# Altium schematic symbol library Sch_Lib.SchLib: 596 symbols (part 6 of 7)
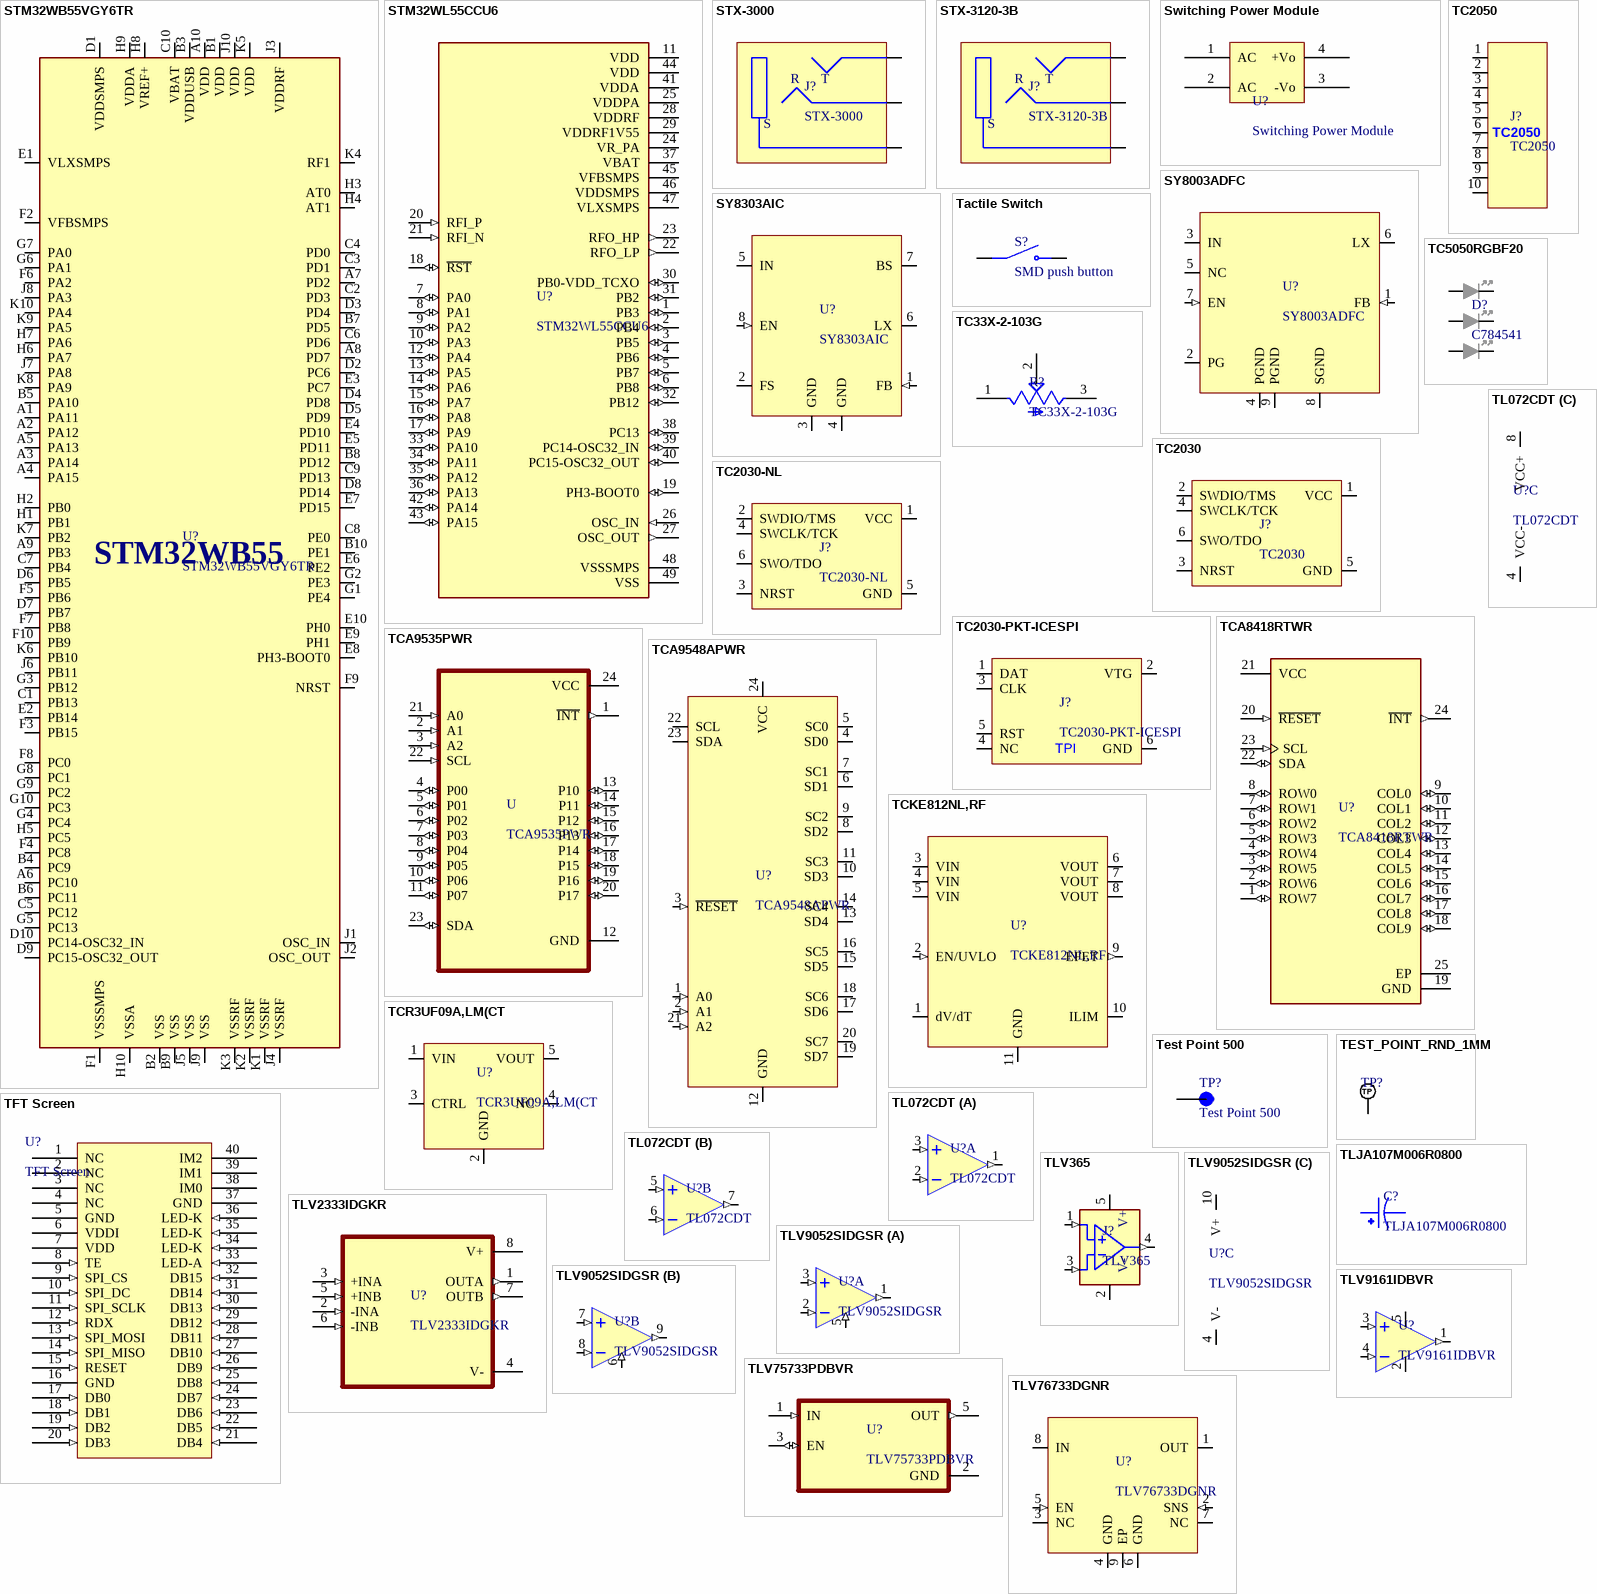
[diagram p42: symbols STM32WB55VGY6TR to TLV76733DGNR]

## TLV75733PDBVR
designator U?
1-A, low-IQ, high-accuracy, low-dropout voltage regulator with enable; MF: Texas Instruments; Check_prices: https://www.snapeda.com/parts/TLV75733PDBVR/Texas+Instruments/view-part/?ref=eda; Value: *; Availability: In Stock; MP: TLV75733PDBVR; Price: None; Package: SOT-23-5 Texas Instruments; SnapEDA_Link: https://www.snapeda.com/parts/TLV75733PDBVR/Texas+Instruments/view-part/?ref=snap; Purchase-URL: https://pricing.snapeda.com/search/part/TLV75733PDBVR/?ref=eda
footprint SOT95P280X145-5N
pins: 1 IN (in), 2 GND (power), 3 EN (io), 5 OUT (out)

## TLV76733DGNR
designator U?
1A 3V3 LDO Regulator HVSSOP-8; Manufacturer: Texas Instruments; Manufacturer Part Number: TLV76733DGNR; Distributor Link: https://www.mouser.de/ProductDetail/Texas-Instruments/TLV76733DGNR?qs=sGAEpiMZZMug9GoBKXZ751mAF56Mq1BpE6IEorDiG8zdSVWisnEjQA%3D%3D
footprint HVSSOP-8
pins: 1 OUT (power), 2 SNS (in), 3 NC, 4 GND (power), 5 EN (in), 6 GND (power), 7 NC, 8 IN (power), 9 EP (power)

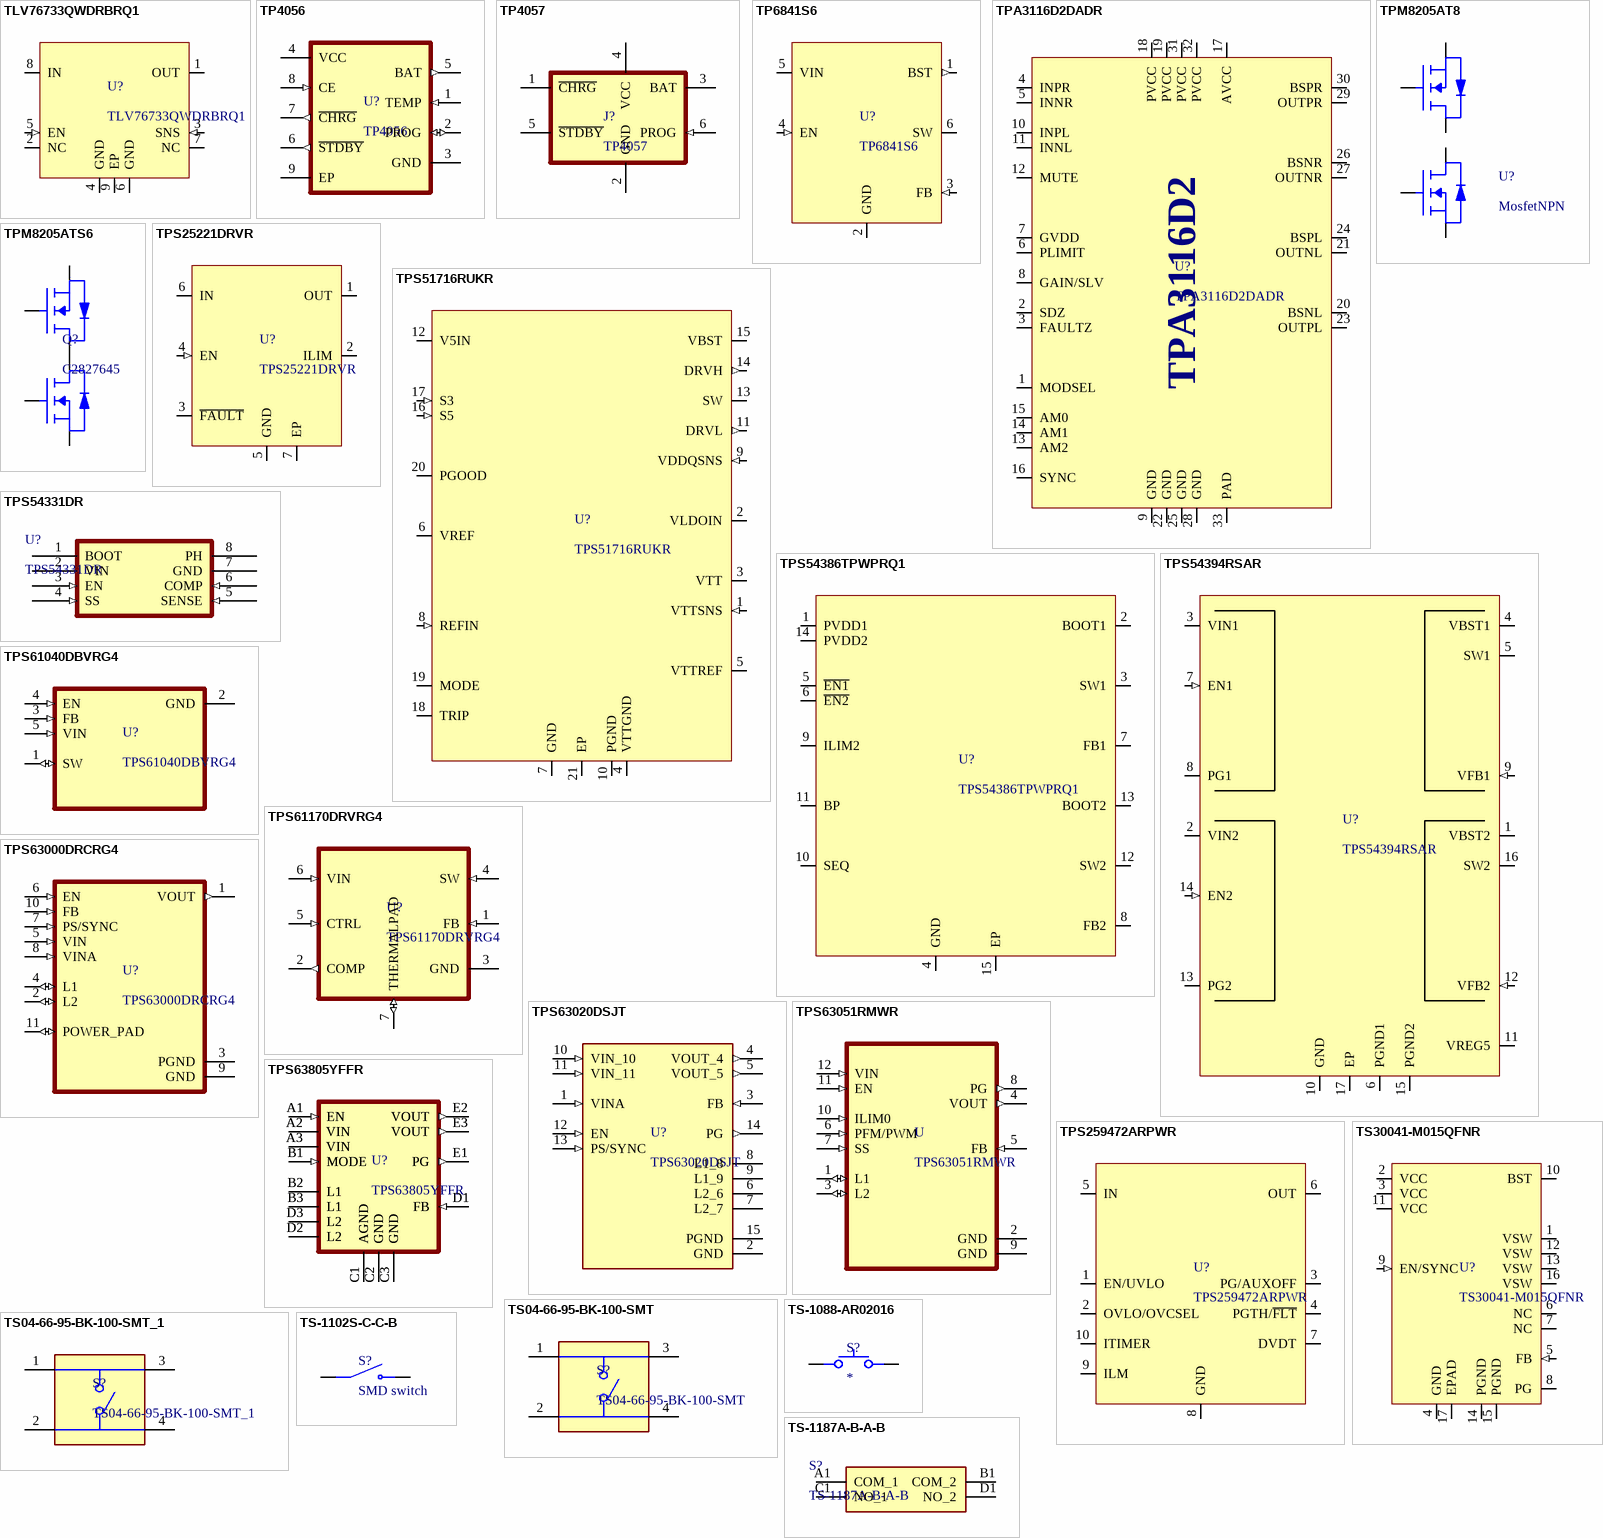
[diagram p31: symbols TLV76733QWDRBRQ1 to TS-1187A-B-A-B]

## TLV76733QWDRBRQ1
designator U?
1A 3V3 LDO Regulator WSON-8; Manufacturer: Texas Instruments; Manufacturer Part Number: TLV76733QWDRBRQ1
footprint WSON-8-3x3-0.65 (SON, 8-Leads, Body 3.00x3.00mm, Pitch 0.65mm, Thermal Pad 2.33x1.49mm, IPC Medium Density)
pins: 1 OUT (power), 2 NC, 3 SNS (in), 4 GND (power), 5 EN (in), 6 GND (power), 7 NC, 8 IN (power), 9 EP (power)

## TP4056
designator U?
Complete single cell Li-Ion battery with a constant current / constant voltage linear charger; MF: NanJing Top Power ASIC Corp.; Check_prices: https://www.snapeda.com/parts/TP4056/NanJing+Top+Power+ASIC+Corp./view-part/?ref=eda; SnapEDA_Link: https://www.snapeda.com/parts/TP4056/NanJing+Top+Power+ASIC+Corp./view-part/?ref=snap; Price: None; Availability: Not in stock; Package: Package; MP: TP4056; Value: *
footprint SOP127P600X175-9N
pins: 1 TEMP (in), 2 PROG (io), 3 GND (power), 4 VCC (power), 5 BAT (out), 6 ~{STDBY} (out), 7 ~{CHRG} (out), 8 CE (in), 9 EP

## TP4057
designator J?
SOT23-6 BATTERY MANAGEMENT ICS R; MF: UMW; SnapEDA_Link: https://www.snapeda.com/parts/TP4057/UMW/view-part/?ref=snap; Package: SOT23-6 UMW; Value: *; MP: TP4057; Check_prices: https://www.snapeda.com/parts/TP4057/UMW/view-part/?ref=eda
footprint SOT26
pins: 1 ~{CHRG} (oc), 2 GND (power), 3 BAT (power), 4 VCC (power), 5 ~{STDBY} (oc), 6 PROG (in)

## TP6841S6
designator U?
40V 0.8A 800kHz Synchronous Step-Down Converter; Manufacturer: TECH PUBLIC; Manufacturer Part Number: TP6841S6
footprint SOT-23-6
pins: 1 BST (out), 2 GND (power), 3 FB (in), 4 EN (in), 5 VIN (power), 6 SW (power)

## TPA3116D2DADR
designator U?
50-W Filter-Free Class-D Stereo Amplifier With AM / Avoidance; Manufacturer: Texas Instruments; Manufacturer Part Number: TPA3116D2DADR
footprint TSSOP32-DAD (TSOP, 32-Leads, Body 11.00x6.10mm, Pitch 0.65mm, IPC Medium Density)
pins: 1 MODSEL, 2 SDZ, 3 FAULTZ, 4 INPR, 5 INNR, 6 PLIMIT, 7 GVDD, 8 GAIN/SLV, 9 GND, 10 INPL, 11 INNL, 12 MUTE, 13 AM2, 14 AM1, 15 AM0, 16 SYNC, 17 AVCC, 18 PVCC, 19 PVCC, 20 BSNL, 21 OUTNL, 22 GND, 23 OUTPL, 24 BSPL, 25 GND, 26 BSNR, 27 OUTNR, 28 GND, 29 OUTPR, 30 BSPR, 31 PVCC, 32 PVCC, 33 PAD
text: TPA3116D2

## TPM8205AT8
designator U?, comment MosfetNPN
20V 6A 19mΩ@4.5V,6A 1.5W 500mV TSSOP-8 MOSFETs ROHS; ComponentLink1Description: LCSC No Part; ComponentLink1URL: C7202961
footprint TSSOP-8-DW 1
pins: D1, D2, G1, G2, S1, S2

## TPM8205ATS6
designator Q?, comment C2827645
20V 25mΩ@2.5V,3A 1.5W 1.2V SOT-23-6 MOSFETs ROHS
footprint SOT-23-6
pins: 1 S1, 3 S2, 6 G1,  4 G2, D1, D2

## TPS25221DRVR
designator U?
2.5-V to 5.5-V, 2-A Continuous Current Limited Switch; Manufacturer: Texas Instruments; Manufacturer Part Number: TPS25221DRVR; Distributor Link: https://www.mouser.de/ProductDetail/Texas-Instruments/TPS25221DRVR?qs=y6ZabgHbY%252BwMfKdJX5xA9w%3D%3D; LCSC: C2872281
footprint WSON-6
pins: 1 OUT (power), 2 ILIM, 3 ~{FAULT} (oc), 4 EN (in), 5 GND (power), 6 IN (power), 7 EP (power)

## TPS51716RUKR
designator U?
DDR Memory Power Solution Synchronous Buck Controller, 2-A LDO, With Buffered Reference; Manufacturer: Texas Instruments; Manufacturer Part Number: TPS51716RUKR; Distributor Link: https://eu.mouser.com/ProductDetail/Texas-Instruments/TPS51716RUKR?qs=FBI%252BX3tnPf0Ie0vqCZ0PLg%3D%3D; LCSC: TPS51716RUKR
footprint WQFN-20
pins: 1 VTTSNS (in), 2 VLDOIN (power), 3 VTT (power), 4 VTTGND (power), 5 VTTREF (power), 6 VREF (power), 7 GND (power), 8 REFIN (in), 9 VDDQSNS (in), 10 PGND (power), 11 DRVL (out), 12 V5IN (power), 13 SW (power), 14 DRVH (out), 15 VBST (power), 16 S5 (in), 17 S3 (in), 18 TRIP, 19 MODE, 20 PGOOD (oc), 21 EP (power)

## TPS54331DR
designator U?
footprint SOIC127P599X175-8N
pins: 1 BOOT (power), 2 VIN (power), 3 EN (in), 4 SS (in), 5 SENSE (in), 6 COMP (in), 7 GND (power), 8 PH (power)

## TPS54386TPWPRQ1
designator U?
Dual Buck Regulators 4.5-28V, Dual 3A Out 600kHz HTSSOP-14; Manufacturer: Texas Instruments; Manufacturer Part Number: TPS54386TPWPRQ1
footprint HTSSOP-14-EP
pins: 1 PVDD1, 2 BOOT1, 3 SW1, 4 GND, 5 ~{EN1}, 6 ~{EN2}, 7 FB1, 8 FB2, 9 ILIM2, 10 SEQ, 11 BP, 12 SW2, 13 BOOT2, 14 PVDD2, 15 EP

## TPS54394RSAR
designator U?
3A Dual Channel Synchronous Step-Down Switcher with Integrated FET; Manufacturer: Texas Instruments; Manufacturer Part Number: TPS54394RSAR; Distributor Link: https://www.mouser.de/ProductDetail/Texas-Instruments/TPS54394RSAR?qs=iIeLWXrA%252B1VlbymFcvQr%252BA%3D%3D; LCSC: C2071452
footprint QFN-16
pins: 1 VBST2 (power), 2 VIN2 (power), 3 VIN1 (power), 4 VBST1 (power), 5 SW1 (power), 6 PGND1 (power), 7 EN1 (in), 8 PG1 (oc), 9 VFB1 (in), 10 GND (power), 11 VREG5 (power), 12 VFB2 (in), 13 PG2 (oc), 14 EN2 (in), 15 PGND2 (power), 16 SW2 (power), 17 EP (power)

## TPS61040DBVRG4
designator U?
28-V, 400-mA Switch Boost Converter in SOT-23 for LCD and White LED Applications 5-SOT-23 -40 to 85; MF: Texas Instruments; Purchase-URL: https://pricing.snapeda.com/search/part/TPS61040DBVRG4/?ref=eda; Package: SOT-23-5 Texas Instruments; Price: None; Check_prices: https://www.snapeda.com/parts/TPS61040DBVRG4/Texas+Instruments/view-part/?ref=eda; SnapEDA_Link: https://www.snapeda.com/parts/TPS61040DBVRG4/Texas+Instruments/view-part/?ref=snap; Availability: In Stock; Value: *; MP: TPS61040DBVRG4
footprint SOT95P280X145-5N
pins: 1 SW (io), 2 GND (power), 3 FB (in), 4 EN (in), 5 VIN (in)

## TPS61170DRVRG4
designator U?
1.2A Switch, 38V High Voltage Boost Converter in 2x2mm QFN Package 6-WSON -40 to 85; MF: Texas Instruments; Package: WSON-6 Texas Instruments; Price: None; Check_prices: https://www.snapeda.com/parts/TPS61170DRVRG4/Texas+Instruments/view-part/?ref=eda; Value: *; SnapEDA_Link: https://www.snapeda.com/parts/TPS61170DRVRG4/Texas+Instruments/view-part/?ref=snap; MP: TPS61170DRVRG4; Availability: In Stock; Purchase-URL: https://pricing.snapeda.com/search?q=TPS61170DRVRG4&ref=eda
footprint SON65P200X200X80-7N
pins: 1 FB (in), 2 COMP (out), 3 GND (power), 4 SW (in), 5 CTRL (in), 6 VIN (in), 7 THERMALPAD (io)

## TPS63000DRCRG4
designator U?
High efficiency Buck-Boost Converter with 1.8A Current Switches in 3x3 QFN 10-VSON -40 to 85; MF: Texas Instruments; Price: None; SnapEDA_Link: https://www.snapeda.com/parts/TPS63000DRCRG4/Texas%20Instruments/view-part/287688/?ref=snap; MP: TPS63000DRCRG4; Value: *; Availability: Warning; Package: VSON-10 Texas Instruments; Purchase-URL: https://pricing.snapeda.com/search/part/TPS63000DRCRG4/?ref=eda
footprint VREG_V62/16624-01YE
pins: 1 VOUT (out), 2 L2 (io), 3 PGND (power), 4 L1 (io), 5 VIN (in), 6 EN (in), 7 PS/SYNC (in), 8 VINA (in), 9 GND (power), 10 FB (in), 11 POWER_PAD (io)

## TPS63020DSJT
designator U?
High Efficiency Single Inductor Buck-Boost Converter with 4A Switch; MF: Texas Instruments; SnapEDA_Link: https://www.snapeda.com/parts/TPS63020DSJT/Texas+Instruments/view-part/?ref=snap; Package: VSON-14 Texas Instruments; Value: *; MP: TPS63020DSJT; Check_prices: https://www.snapeda.com/parts/TPS63020DSJT/Texas+Instruments/view-part/?ref=eda
footprint IC_TPS63020DSJT
pins: 1 VINA (in), 2 GND (power), 3 FB (in), 4 VOUT_4 (out), 5 VOUT_5 (out), 6 L2_6, 7 L2_7, 8 L1_8, 9 L1_9, 10 VIN_10 (in), 11 VIN_11 (in), 12 EN (in), 13 PS/SYNC (in), 14 PG (out), 15 PGND (power)

## TPS63051RMWR
designator U
Buck-Boost Switching Regulator IC Positive Fixed 3.3V 1 Output 500mA 12-VFQFN; MF: Texas Instruments; Package: VQFN-12 Texas Instruments; Value: *; Price: None; MP: TPS63051RMWR; SnapEDA_Link: https://www.snapeda.com/parts/TPS63051RMWR/Texas%20Instruments/view-part/423860/?ref=snap; Availability: Unavailable
footprint QFN50P250X250X100-12N
pins: 1 L1 (io), 2 GND (power), 3 L2 (io), 4 VOUT (out), 5 FB (in), 6 PFM/PWM (in), 7 SS (in), 8 PG (out), 9 GND (power), 10 ILIM0 (in), 11 EN (in), 12 VIN (in)

## TPS63805YFFR
designator U?
Switching Regulator IC Output; MF: Texas Instruments; MP: TPS63805YFFR; Package: None; SnapEDA_Link: https://www.snapeda.com/parts/TPS63805YFFR/Texas%20Instruments/view-part/3216300/?ref=snap; Availability: Unavailable; Value: *; Price: None
footprint BGA15N40P5X3_225X134X62N
pins: A1 EN (in), A1 EN (in), A2 VIN (power), A2 VIN (power), A3 VIN (power), A3 VIN (power), B1 MODE (in), B1 MODE (in), B2 L1, B2 L1, B3 L1, B3 L1, C1 AGND (power), C1 AGND (power), C2 GND (power), C2 GND (power), C3 GND (power), C3 GND (power), D1 FB (in), D1 FB (in), D2 L2, D2 L2, D3 L2, D3 L2, E1 PG (out), E1 PG (out), E2 VOUT (out), E2 VOUT (out), E3 VOUT (out), E3 VOUT (out)

## TPS259472ARPWR
designator U?
2.7-V–23-V, 5.5-A, 28-mΩ True Reverse Current Blocking eFuse with / Input Reverse Polarity Protection; Manufacturer: Texas Instruments; Manufacturer Part Number: TPS259472ARPWR
footprint VQFN-HR-10
pins: 1 EN/UVLO, 2 OVLO/OVCSEL, 3 PG/AUXOFF, 4 PGTH/~{FLT}, 5 IN, 6 OUT, 7 DVDT, 8 GND, 9 ILM, 10 ITIMER

## TS04-66-95-BK-100-SMT
designator S?
6 x 6 mm, 4.3~9.5 mm Actuator Height, 100~260 gf, Surface Mount, SPST, Tactile Switch; MF: CUI Devices; Package: None; Price: None; SnapEDA_Link: https://www.snapeda.com/parts/TS04-66-95-BK-100-SMT/CUI+Devices/view-part/?ref=snap; CUI_purchase_URL: https://www.cuidevices.com/product/switches/tactile-switches/ts04-series?utm_source=snapeda.com&utm_medium=referral&utm_campaign=snapedaBOM; Value: *; Check_prices: https://www.snapeda.com/parts/TS04-66-95-BK-100-SMT/CUI+Devices/view-part/?ref=eda; MP: TS04-66-95-BK-100-SMT; Purchase-URL: https://pricing.snapeda.com/search/part/TS04-66-95-BK-100-SMT/?ref=eda; Availability: In Stock
footprint SW_TS04-66-95-BK-100-SMT
pins: 1, 2, 3, 4

## TS04-66-95-BK-100-SMT_1
designator S?
6 x 6 mm, 4.3~9.5 mm Actuator Height, 100~260 gf, Surface Mount, SPST, Tactile Switch; MF: CUI Devices; Package: None; Price: None; SnapEDA_Link: https://www.snapeda.com/parts/TS04-66-95-BK-100-SMT/CUI+Devices/view-part/?ref=snap; CUI_purchase_URL: https://www.cuidevices.com/product/switches/tactile-switches/ts04-series?utm_source=snapeda.com&utm_medium=referral&utm_campaign=snapedaBOM; Value: *; Check_prices: https://www.snapeda.com/parts/TS04-66-95-BK-100-SMT/CUI+Devices/view-part/?ref=eda; MP: TS04-66-95-BK-100-SMT; Purchase-URL: https://pricing.snapeda.com/search/part/TS04-66-95-BK-100-SMT/?ref=eda; Availability: In Stock
footprint SW_TS04-66-95-BK-100-SMT
pins: 1, 2, 3, 4

## TS30041-M015QFNR
designator U?
High Efficiency 1A Current-Mode Synchronous Buck Converter, 2.2MHz; Manufacturer: Semtech; Manufacturer Part Number: TS30041-M015QFNR
footprint QFN16-3x3-0.5 (QFN, 16-Leads, Body 3.00x3.00mm, Pitch 0.50mm, Thermal Pad 1.58x1.58mm, IPC Medium Density)
pins: 1 VSW (power), 2 VCC (power), 3 VCC (power), 4 GND (power), 5 FB (in), 6 NC, 7 NC, 8 PG (oc), 9 EN/SYNC (in), 10 BST, 11 VCC (power), 12 VSW (power), 13 VSW (power), 14 PGND (power), 15 PGND (power), 16 VSW (power), 17 EPAD (power)

## TS-1088-AR02016
designator S?
50mA 4mm 100MÎ© 100,000 Times 12V 160gf 3mm 2mm Round Button Vertical welding SPST SMD Tactile Switches ROHS; MF: Xunpu; MP: TS-1088-AR02016; SnapEDA_Link: https://www.snapeda.com/parts/TS-1088-AR02016/Xunpu/view-part/?ref=snap; Package: Package; Value: *; Check_prices: https://www.snapeda.com/parts/TS-1088-AR02016/Xunpu/view-part/?ref=eda
footprint SW_TS-1088-AR02016
pins: 1, 2

## TS-1102S-C-C-B
designator S?, comment SMD switch
None Without bracket 50mA 6mm 300,000 times 260gf 12V 6mm 5mm Round Button Standing paste SPST SMD Tactile Switches ROHS
footprint TS-1102S-C-C-B (None Without bracket 50mA 6mm 300,000 times 260gf 12V 6mm 5mm Round Button Standing paste SPST SMD Tactile Switches ROHS)
pins: 2 COM, 4 NO

## TS-1187A-B-A-B
designator S?
Switch; Manufacturer_Name: XKB Connectivity; Datasheet Link: http://www.helloxkb.com/public/images/pdf/TS-1187A-X-X-X.pdf; Height: 4.05mm; Manufacturer_Part_Number: TS-1187A-B-A-B
footprint TS1187ABAB
pins: A1 COM_1, B1 COM_2, C1 NO_1, D1 NO_2

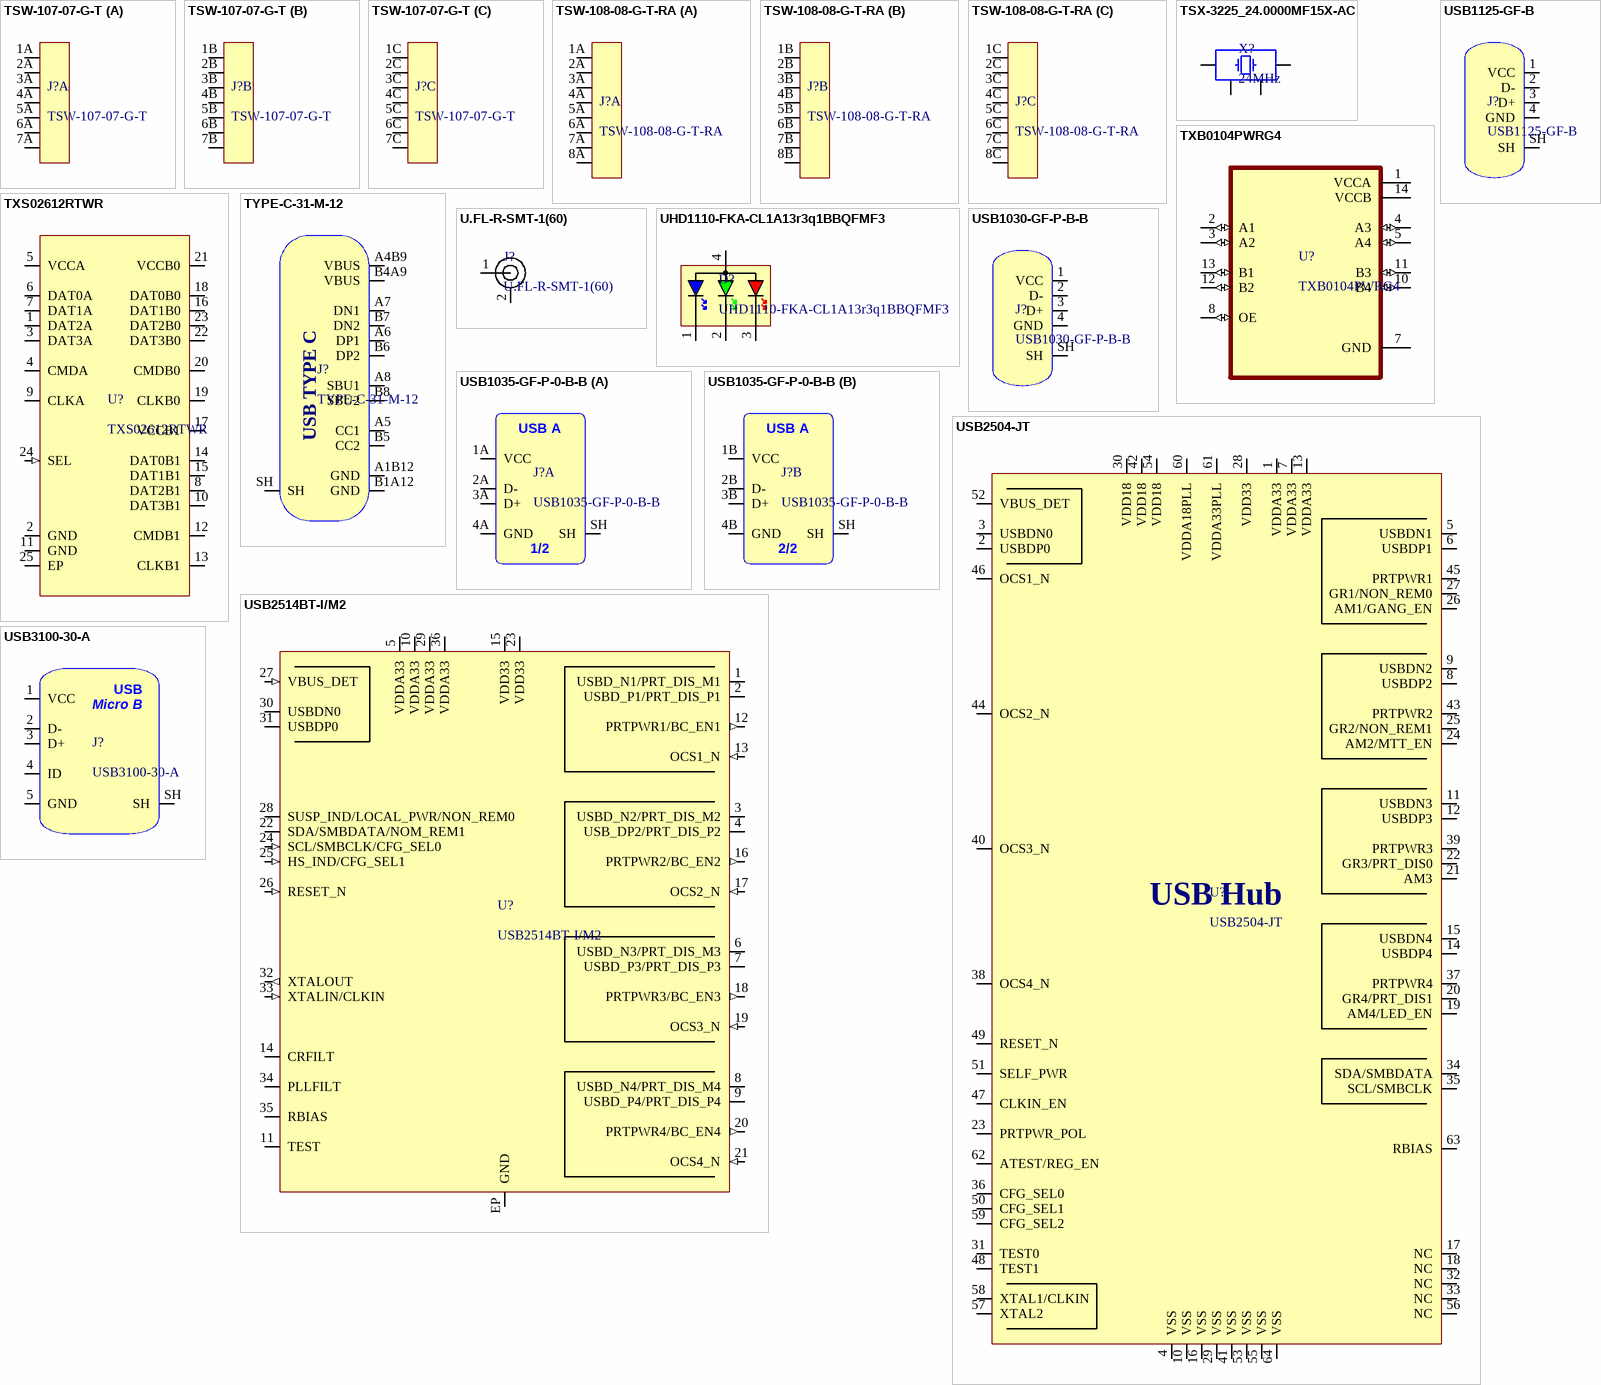
[diagram p32: symbols TSW-107-07-G-T to USB3100-30-A]

## TSW-107-07-G-T
designator J?
Header 21 Position 3 Rows 2.54mm Pitch Right Angle; Manufacturer: Samtec; Manufacturer Part Number: TSW-107-07-G-T
footprint TSW-107-07-G-T
part A pins: 1A, 2A, 3A, 4A, 5A, 6A, 7A
part B pins: 1B, 2B, 3B, 4B, 5B, 6B, 7B
part C pins: 1C, 2C, 3C, 4C, 5C, 6C, 7C

## TSW-108-08-G-T-RA
designator J?
Header 24 Position 3 Rows 2.54mm Pitch Right Angle; Manufacturer: Samtec; Manufacturer Part Number: TSW-108-08-G-T-RA
footprint TSW-108-08-G-T-RA
part A pins: 1A, 2A, 3A, 4A, 5A, 6A, 7A, 8A
part B pins: 1B, 2B, 3B, 4B, 5B, 6B, 7B, 8B
part C pins: 1C, 2C, 3C, 4C, 5C, 6C, 7C, 8C

## TSX-3225_24.0000MF15X-AC
designator X?, comment 24MHz
Crystal SMD 24MHz 10PPM 7pF 3225; Manufacturer: Epson; Manufacturer Part Number: TSX-3225 24.0000MF15X-AC
footprint XTAL_3225
pins: 1, 2, 3, 4

## TXB0104PWRG4
designator U?
4-Bit Bidirectional Voltage-Level Shifter with Auto Direction Sensing and +/-15 kV ESD Protect 14-TSSOP -40 to 85; MF: Texas Instruments; Value: *; Check_prices: https://www.snapeda.com/parts/TXB0104PWRG4/Texas+Instruments/view-part/?ref=eda; SnapEDA_Link: https://www.snapeda.com/parts/TXB0104PWRG4/Texas+Instruments/view-part/?ref=snap; Availability: In Stock; MP: TXB0104PWRG4; Purchase-URL: https://pricing.snapeda.com/search/part/TXB0104PWRG4/?ref=eda; Package: TSSOP-14 Texas Instruments; Price: None
footprint SOP65P640X120-14N
pins: 1 VCCA (power), 2 A1 (io), 3 A2 (io), 4 A3 (io), 5 A4 (io), 7 GND (power), 8 OE (io), 10 B4 (io), 11 B3 (io), 12 B2 (io), 13 B1 (io), 14 VCCB (power)

## TXS02612RTWR
designator U?
SDIO PORT EXPANDER WITH VOLTAGE-LEVEL TRANSLATION; Manufacturer: Texas Instruments; Manufacturer Part Number: TXS02612RTWR; Distributor Link: https://www.lcsc.com/product-detail/Interface-Specialized_Texas-Instruments-TXS02612RTWR_C140276.html; LCSC: C140276
footprint QFN50P400X400X80_HS-25N (QFN, 24-Leads, Body 4.00x4.00mm, Pitch 0.50mm, Thermal Pad 2.50x2.50mm, IPC Medium Density)
pins: 1 DAT2A (io), 2 GND (power), 3 DAT3A (io), 4 CMDA (io), 5 VCCA (power), 6 DAT0A (io), 7 DAT1A (io), 8 DAT2B1 (io), 9 CLKA (io), 10 DAT3B1 (io), 11 GND (power), 12 CMDB1 (io), 13 CLKB1 (io), 14 DAT0B1 (io), 15 DAT1B1 (io), 16 DAT1B0 (io), 17 VCCB1 (power), 18 DAT0B0 (io), 19 CLKB0 (io), 20 CMDB0 (io), 21 VCCB0 (power), 22 DAT3B0 (io), 23 DAT2B0 (io), 24 SEL (in), 25 EP (power)

## TYPE-C-31-M-12
designator J?
USB Type C Connector Horizontal SMT; Manufacturer: Koren Hroparts; Manufacturer Part Number: TYPE-C-31-M-12
footprint TYPE-C-31-M-12
pins: A1B12 GND (power), A4B9 VBUS (power), A5 CC1, A6 DP1 (io), A7 DN1 (io), A8 SBU1 (io), B1A12 GND (power), B4A9 VBUS (power), B5 CC2 (hiz), B6 DP2 (io), B7 DN2 (io), B8 SBU2 (io), SH (power)
text: USB TYPE C

## U.FL-R-SMT-1(60)
designator J?
RF Connector u.FL 50 Ohms 6 GHz; Manufacturer: Hirose Connector; Manufacturer Part Number: U.FL-R-SMT-1(60)
footprint U.FL-R-SMT-1(60)
pins: 1, 2

## UHD1110-FKA-CL1A13r3q1BBQFMF3
designator D?
RGB LED If=10mA Vf=1.9,2.9,2.9; Manufacturer: Cree; Manufacturer Part Number: UHD1110-FKA-CL1A13r3q1BBQFMF3
footprint UHD1110-FKA-CL1A13r3q1BBQFMF3
pins: 1, 2, 3, 4

## USB1030-GF-P-B-B
designator J?
USB Connector Type B 2.0 Through-Hole; Manufacturer: GCT; Manufacturer Part Number: USB1030-GF-P-B-B
footprint USB1030-GF-P-B-B
pins: 1 VCC, 2 D-, 3 D+, 4 GND, SH

## USB1035-GF-P-0-B-B
designator J?
USB Connector Type A 2.0 Dual Stacked Through-Hole; Manufacturer: GCT; Manufacturer Part Number: USB1035-GF-P-0-B-B; Distributor Link: https://www.mouser.de/ProductDetail/GCT/USB1035-GF-P-0-B-B?qs=KUoIvG%2F9IlZdvtWwZEQX0g%3D%3D
footprint USB1035-GF-P-0-B-B
part A pins: 1A VCC, 2A D-, 3A D+, 4A GND, SH
part B pins: 1B VCC, 2B D-, 3B D+, 4B GND, SH
part A text: USB A; 1/2
part B text: USB A; 2/2

## USB1125-GF-B
designator J?
USB Connector Type A 2.0 Through-Hole; Manufacturer: GCT; Manufacturer Part Number: USB1125-GF-B
footprint USB1125-GF-B
pins: 1 VCC, 2 D-, 3 D+, 4 GND, SH

## USB2504-JT
designator U?
USB 2.0 4 Port Hub TQFP-64; Manufacturer: Microchip; Manufacturer Part Number: USB2504-JT
footprint TQFP-64-0.5 (TSQFP, 64-Leads, Body 10,00x10,00mm, Pitch 0,50mm, IPC Medium Density)
pins: 1 VDDA33, 2 USBDP0, 3 USBDN0, 4 VSS, 5 USBDN1, 6 USBDP1, 7 VDDA33, 8 USBDP2, 9 USBDN2, 10 VSS, 11 USBDN3, 12 USBDP3, 13 VDDA33, 14 USBDP4, 15 USBDN4, 16 VSS, 17 NC, 18 NC, 19 AM4/LED_EN, 20 GR4/PRT_DIS1, 21 AM3, 22 GR3/PRT_DIS0, 23 PRTPWR_POL, 24 AM2/MTT_EN, 25 GR2/NON_REM1, 26 AM1/GANG_EN, 27 GR1/NON_REM0, 28 VDD33, 29 VSS, 30 VDD18, 31 TEST0, 32 NC, 33 NC, 34 SDA/SMBDATA, 35 SCL/SMBCLK, 36 CFG_SEL0, 37 PRTPWR4, 38 OCS4_N, 39 PRTPWR3, 40 OCS3_N, 41 VSS, 42 VDD18, 43 PRTPWR2, 44 OCS2_N, 45 PRTPWR1, 46 OCS1_N, 47 CLKIN_EN, 48 TEST1, 49 RESET_N, 50 CFG_SEL1, 51 SELF_PWR, 52 VBUS_DET, 53 VSS, 54 VDD18, 55 VSS, 56 NC, 57 XTAL2, 58 XTAL1/CLKIN, 59 CFG_SEL2, 60 VDDA18PLL, 61 VDDA33PLL, 62 ATEST/REG_EN, 63 RBIAS, 64 VSS
text: USB Hub

## USB2514BT-I/M2
designator U?
USB 2.0 High-Speed 4-Port Hub; Manufacturer: Microchip; Manufacturer Part Number: USB2514BT-I/M2; Distributor Link: https://www.mouser.de/ProductDetail/Microchip-Technology/USB2514BT-I-M2?qs=uus7iwvxYD9qxHHW9Td2qw%3D%3D; LCSC: C510949
footprint SQFN-36
pins: 1 USBD_N1/PRT_DIS_M1 (io), 2 USBD_P1/PRT_DIS_P1 (io), 3 USBD_N2/PRT_DIS_M2 (io), 4 USB_DP2/PRT_DIS_P2 (io), 5 VDDA33 (power), 6 USBD_N3/PRT_DIS_M3 (io), 7 USBD_P3/PRT_DIS_P3 (io), 8 USBD_N4/PRT_DIS_M4 (io), 9 USBD_P4/PRT_DIS_P4 (io), 10 VDDA33 (power), 11 TEST, 12 PRTPWR1/BC_EN1 (out), 13 OCS1_N (in), 14 CRFILT (power), 15 VDD33 (power), 16 PRTPWR2/BC_EN2 (out), 17 OCS2_N (in), 18 PRTPWR3/BC_EN3 (out), 19 OCS3_N (in), 20 PRTPWR4/BC_EN4 (out), 21 OCS4_N (in), 22 SDA/SMBDATA/NOM_REM1 (io), 23 VDD33 (power), 24 SCL/SMBCLK/CFG_SEL0 (in), 25 HS_IND/CFG_SEL1 (in), 26 RESET_N (in), 27 VBUS_DET (in), 28 SUSP_IND/LOCAL_PWR/NON_REM0 (io), 29 VDDA33 (power), 30 USBDN0 (io), 31 USBDP0 (io), 32 XTALOUT (out), 33 XTALIN/CLKIN (in), 34 PLLFILT (power), 35 RBIAS, 36 VDDA33 (power), EP GND (power)

## USB3100-30-A
designator J?
USB Connector Type Micro B 2.0 SMD Reverse Mount; Manufacturer: GCT; Manufacturer Part Number: USB3100-30-A
footprint USB3100-30-A
pins: 1 VCC, 2 D-, 3 D+, 4 ID, 5 GND, SH
text: USB; Micro B

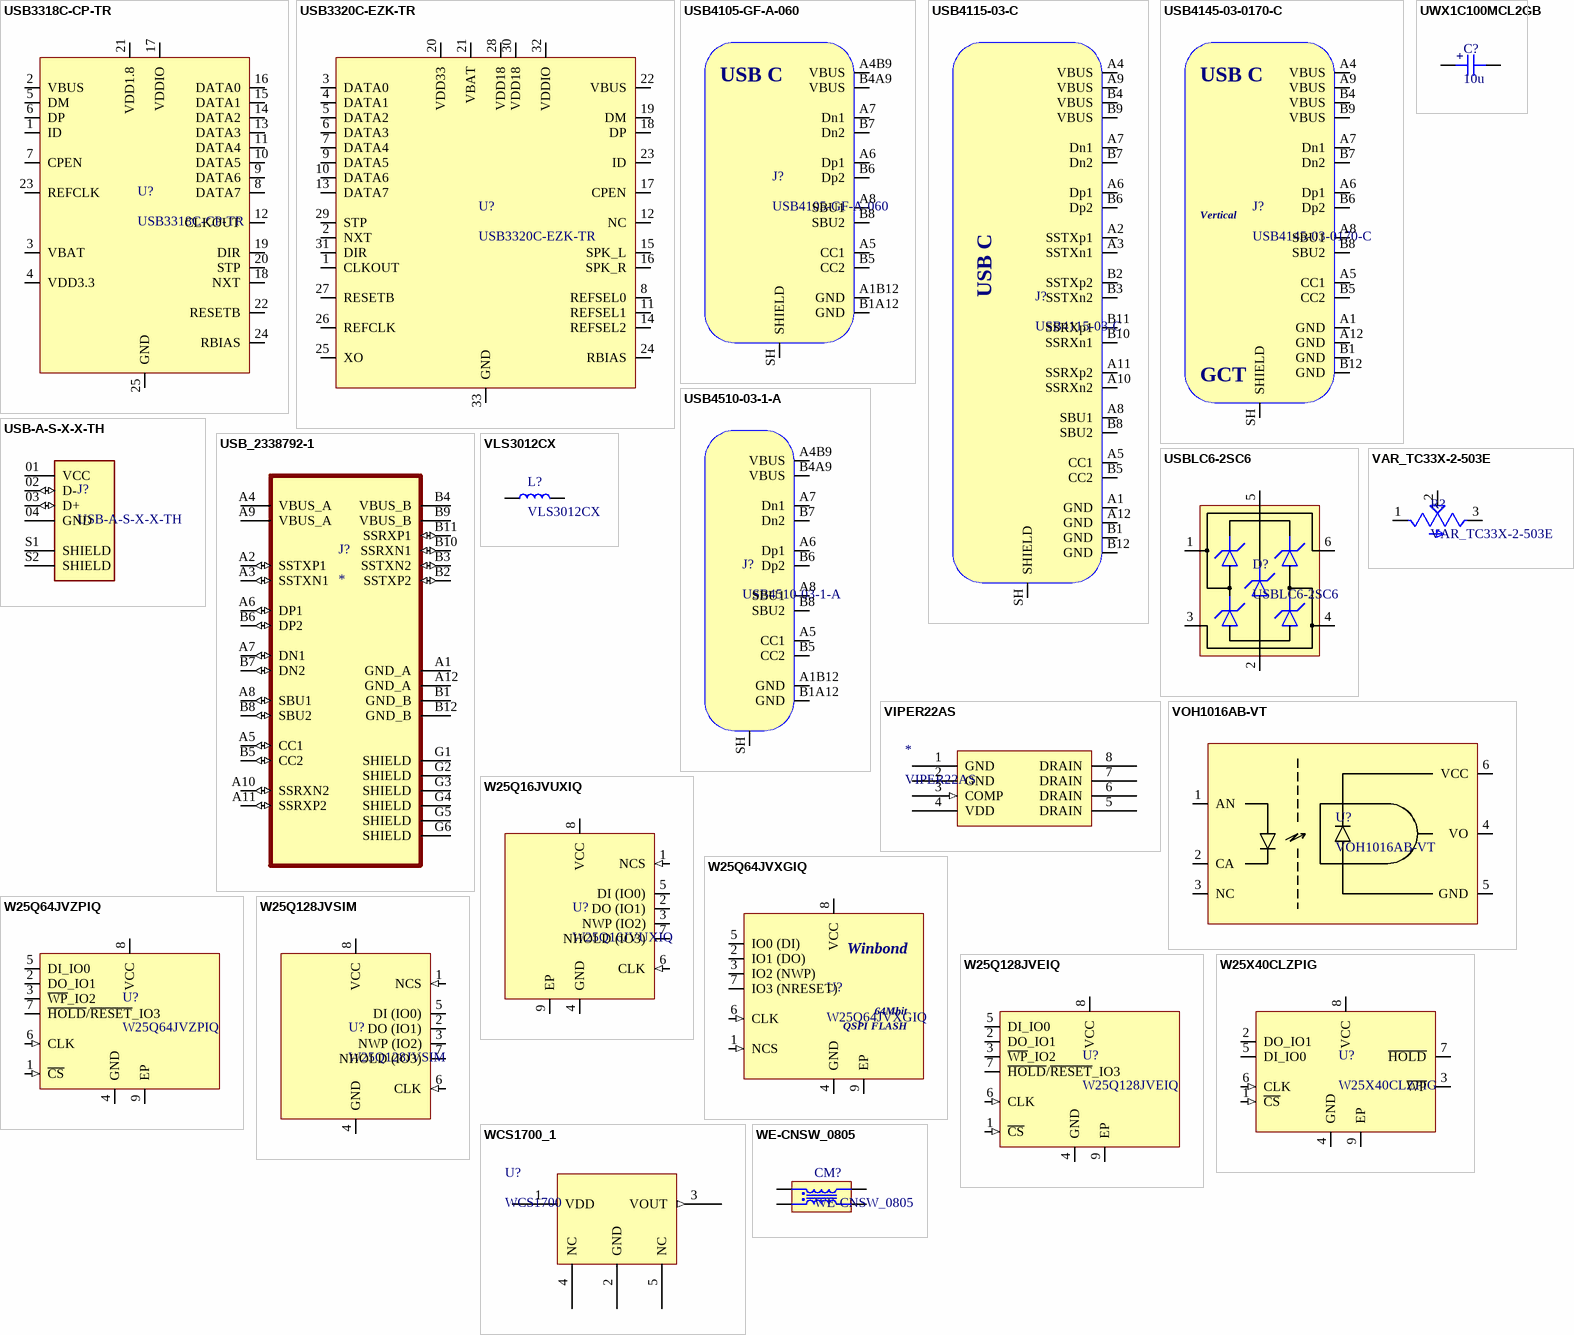
[diagram p33: symbols USB3318C-CP-TR to WE-CNSW_0805]

## USB3318C-CP-TR
designator U?
USB Interface IC High Speed USB 1.8V ULPI; Manufacturer: Microchip; Manufacturer Part Number: USB3318C-CP-TR
footprint QFN50P400X400X100_HS-25N (QFN, 24-Leads, Body 4.00x4.00mm, Pitch 0.50mm, Thermal Pad 2.50x2.50mm, IPC Medium Density)
pins: 1 ID, 2 VBUS, 3 VBAT, 4 VDD3.3, 5 DM, 6 DP, 7 CPEN, 8 DATA7, 9 DATA6, 10 DATA5, 11 DATA4, 12 CLKOUT, 13 DATA3, 14 DATA2, 15 DATA1, 16 DATA0, 17 VDDIO, 18 NXT, 19 DIR, 20 STP, 21 VDD1.8, 22 RESETB, 23 REFCLK, 24 RBIAS, 25 GND

## USB3320C-EZK-TR
designator U?
Hi-Speed USB 2.0 ULPI Transceiver; Manufacturer: Microchip; Manufacturer Part Number: USB3320C-EZK-TR
footprint QFN-32-5x5x0.85mm
pins: 1 CLKOUT, 2 NXT, 3 DATA0, 4 DATA1, 5 DATA2, 6 DATA3, 7 DATA4, 8 REFSEL0, 9 DATA5, 10 DATA6, 11 REFSEL1, 12 NC, 13 DATA7, 14 REFSEL2, 15 SPK_L, 16 SPK_R, 17 CPEN, 18 DP, 19 DM, 20 VDD33, 21 VBAT, 22 VBUS, 23 ID, 24 RBIAS, 25 XO, 26 REFCLK, 27 RESETB, 28 VDD18, 29 STP, 30 VDD18, 31 DIR, 32 VDDIO, 33 GND

## USB4105-GF-A-060
designator J?
USB Connector Type C SMT 12 Pin; Manufacturer: GCT; Manufacturer Part Number: USB4105-GF-A-060; Distributor Link: https://eu.mouser.com/ProductDetail/GCT/USB4105-GF-A-060?qs=QNEnbhJQKvY2mocwNJzgfA%3D%3D
footprint USB4105-GF-A-060
pins: A1B12 GND, A4B9 VBUS, A5 CC1, A6 Dp1, A7 Dn1, A8 SBU1, B1A12 GND, B4A9 VBUS, B5 CC2, B6 Dp2, B7 Dn2, B8 SBU2, SH SHIELD
text: USB C

## USB4115-03-C
designator J?
USB Connector Type C Vertical 24 Position 5A USB 3.2 Gen 2; Manufacturer: GCT; Manufacturer Part Number: USB4115-03-C
footprint USB4115-03-C
pins: A1 GND, A2 SSTXp1, A3 SSTXn1, A4 VBUS, A5 CC1, A6 Dp1, A7 Dn1, A8 SBU1, A9 VBUS, A10 SSRXn2, A11 SSRXp2, A12 GND, B1 GND, B2 SSTXp2, B3 SSTXn2, B4 VBUS, B5 CC2, B6 Dp2, B7 Dn2, B8 SBU2, B9 VBUS, B10 SSRXn1, B11 SSRXp1, B12 GND, SH SHIELD
text: USB C

## USB4145-03-0170-C
designator J?
USB Connector Type C SMT 16 Pin Vertical; Manufacturer: GCT; Manufacturer Part Number: USB4145-03-0170-C
footprint USB4145-03-0170-C
pins: A1 GND, A4 VBUS, A5 CC1, A6 Dp1, A7 Dn1, A8 SBU1, A9 VBUS, A12 GND, B1 GND, B4 VBUS, B5 CC2, B6 Dp2, B7 Dn2, B8 SBU2, B9 VBUS, B12 GND, SH SHIELD
text: USB C; Vertical

## USB4510-03-1-A
designator J?
USB Connector Type C SMT Mid-Mount 16 Pin; Manufacturer: GCT; Manufacturer Part Number: USB4510-03-1-A
footprint USB4510-03-1-A
pins: A1B12 GND, A4B9 VBUS, A5 CC1, A6 Dp1, A7 Dn1, A8 SBU1, B1A12 GND, B4A9 VBUS, B5 CC2, B6 Dp2, B7 Dn2, B8 SBU2, SH SHIELD

## USB-A-S-X-X-TH
designator J?
USB Connectors USB 2.0 Interface, Type A; MP: USB-A-S-F-B-TH-TR; MF: Samtec; SnapEDA_Link: https://www.snapeda.com/parts/USB-A-S-F-B-TH-TR/Samtec/view-part/?ref=snap; Package: None; Check_prices: https://www.snapeda.com/parts/USB-A-S-F-B-TH-TR/Samtec/view-part/?ref=eda; Purchase-URL: https://pricing.snapeda.com/search/part/USB-A-S-F-B-TH-TR/?ref=eda; Price: None; Value: *; Availability: In Stock
footprint SAMTEC_USB-A-S-X-X-TH
pins: 01 VCC (power), 02 D- (io), 03 D+ (io), 04 GND (power), S1 SHIELD, S2 SHIELD

## USB_2338792-1
designator J?
USB TYPE C 3.1 CONN REV TOP MOUNT CH1.6; MF: TE Connectivity; MP: 2338792-1; SnapEDA_Link: https://www.snapeda.com/parts/2338792-1/TE+Connectivity/view-part/?ref=snap; Package: None; Value: *; Check_prices: https://www.snapeda.com/parts/2338792-1/TE+Connectivity/view-part/?ref=eda
footprint TE_2338792-1
pins: A1 GND_A (power), A2 SSTXP1 (io), A3 SSTXN1 (io), A4 VBUS_A (power), A5 CC1 (io), A6 DP1 (io), A7 DN1 (io), A8 SBU1 (io), A9 VBUS_A (power), A10 SSRXN2 (io), A11 SSRXP2 (io), A12 GND_A (power), B1 GND_B (power), B2 SSTXP2 (io), B3 SSTXN2 (io), B4 VBUS_B (power), B5 CC2 (io), B6 DP2 (io), B7 DN2 (io), B8 SBU2 (io), B9 VBUS_B (power), B10 SSRXN1 (io), B11 SSRXP1 (io), B12 GND_B (power), G1 SHIELD, G2 SHIELD, G3 SHIELD, G4 SHIELD, G5 SHIELD, G6 SHIELD

## USBLC6-2SC6
designator D?
Low-Capacitance ESD Protection USB; Manufacturer: STMicroelectronics; Manufacturer Part Number: USBLC6-2SC6; Distributor Link: https://www.mouser.de/ProductDetail/STMicroelectronics/USBLC6-2SC6?qs=po45yt2pPpu%2FhNIlwQdTlg%3D%3D
footprint SOT-23-6
pins: 1 IO1 (io), 2 GND (power), 3 IO2 (io), 4 IO2 (io), 5 VBUS (power), 6 IO1 (io)

## UWX1C100MCL2GB
designator C?, comment 10u
Capacitor SMD Aluminium Electrolytic 10uF 16V D3mm H5.4mm; Manufacturer: Nichicon; Manufacturer Part Number: UWX1C100MCL2GB
footprint CAP_AE_ SMD_D3_L5MM4 (Aluminum Electrolytic Capacitor, Body 3.30x3.30x5.50mm, IPC Medium Density)
pins: 1, 2
text: +

## VAR_TC33X-2-503E
designator R?
50 kOhms 0.1W, 1/10W J Lead Surface Mount Trimmer Potentiometer Cermet 1 Turn Top Adjustment; MF: Bourns; SnapEDA_Link: https://www.snapeda.com/parts/TC33X-2-503E/Bourns/view-part/467769/?ref=snap; Package: 1608 Bourns; MP: TC33X-2-503E; Value: *; Check_prices: https://www.snapeda.com/parts/TC33X-2-503E/Bourns/view-part/467769/?ref=eda; Digi-Key_Part_Number: TC33X-503ECT-ND; Purchase-URL: https://pricing.snapeda.com/search/part/TC33X-2-503E/?ref=eda
footprint TRIM_TC33X-2-503E
pins: 1 CCW, 2 W, 3 CW

## VIPER22AS
designator *
footprint SOIC127P600X175-8N - duplicate1
pins: 1 GND (power), 2 GND (power), 3 COMP (in), 4 VDD (power), 5 DRAIN (oe), 6 DRAIN (oe), 7 DRAIN (oe), 8 DRAIN (oe)

## VLS3012CX
designator L?
Inductor SMD VLS3012CX TDK Shielded 3x3x1.2mm; Manufacturer: TDK; Manufacturer Part Number: VLS3012CX
footprint VLS3012CX
pins: 1, 2

## VOH1016AB-VT
designator U?
High Speed Optocoupler, 1 MBd, Schmitt Trigger; Manufacturer: Vishay; Manufacturer Part Number: VOH1016AB-VT; Distributor Link: https://eu.mouser.com/ProductDetail/Vishay-Semiconductors/VOH1016AB-VT?qs=PqoDHHvF64%252B%2FhNVqIV9aTQ%3D%3D
footprint SMD-6
pins: 1 AN, 2 CA, 3 NC, 4 VO (oc), 5 GND (power), 6 VCC (power)

## W25Q16JVUXIQ
designator U?
16M-BIT SERIAL FLASH MEMORY WITH DUAL/QUAD SPI USON-8; Manufacturer: Winbond; Manufacturer Part Number: W25Q16JVUXIQ; LCSC: C2843335
footprint USON-8-2X3MM
pins: 1 NCS (in), 2 DO (IO1) (io), 3 NWP (IO2) (io), 4 GND (power), 5 DI (IO0) (io), 6 CLK (in), 7 NHOLD (IO3) (io), 8 VCC (power), 9 EP (power)

## W25Q64JVXGIQ
designator U?
64M-BIT SERIAL FLASH MEMORY WITH DUAL, QUAD SPI; Manufacturer: Winbond; Manufacturer Part Number: W25Q64JVXGIQ; Distributor Link: https://www.lcsc.com/product-detail/NOR-FLASH_Winbond-Elec-W25Q64JVXGIQ_C2940195.html; LCSC: C2940195
footprint XSON-8-4x4-EP
pins: 1 NCS (in), 2 IO1 (DO) (io), 3 IO2 (NWP) (io), 4 GND (power), 5 IO0 (DI) (io), 6 CLK (in), 7 IO3 (NRESET) (io), 8 VCC, 9 EP (power)
text: 64Mbit; QSPI FLASH

## W25Q64JVZPIQ
designator U?
3V 64M-BIT SERIAL FLASH MEMORY WITH DUAL/QUAD SPI WSON-8-6x5; Manufacturer: Winbond; Manufacturer Part Number: W25Q64JVZPIQ; Distributor Link: https://www.mouser.de/ProductDetail/Winbond/W25Q64JVZPIQ?qs=qSfuJ%252Bfl%2Fd7Nj8XAKQ%2FzKA%3D%3D
footprint WSON-8-6x5mm
pins: 1 ~{CS} (in), 2 DO_IO1 (io), 3 ~{WP}_IO2 (io), 4 GND (power), 5 DI_IO0 (io), 6 CLK (in), 7 ~{HOLD}/~{RESET}_IO3 (io), 8 VCC (power), 9 EP (power)

## W25Q128JVEIQ
designator U?
3V 128M-BIT SERIAL FLASH MEMORY WITH DUAL/QUAD SPI & QPI & DTR WSON-8; Manufacturer: Winbond; Manufacturer Part Number: W25Q128JVEIQ
footprint WSON-8-8X6 (8-Pad WSON 8x6-mm (Package Code E) (Winbond))
pins: 1 ~{CS} (in), 2 DO_IO1 (io), 3 ~{WP}_IO2 (io), 4 GND (power), 5 DI_IO0 (io), 6 CLK (in), 7 ~{HOLD}/~{RESET}_IO3 (io), 8 VCC (power), 9 EP (power)

## W25Q128JVSIM
designator U?
128M-BIT / SERIAL FLASH MEMORY WITH / DUAL/QUAD SPI & QPI & DTR SOIC-8; Manufacturer: Winbond; Manufacturer Part Number: W25Q128JVSIM
footprint SOIC-8 (SOIC, 8-Leads, Body 4.91x3.90mm, Pitch 1.27mm, IPC Medium Density)
pins: 1 NCS (in), 2 DO (IO1) (io), 3 NWP (IO2) (io), 4 GND (power), 5 DI (IO0) (io), 6 CLK (in), 7 NHOLD (IO3) (io), 8 VCC (power)

## W25X40CLZPIG
designator U?
2.5/3/3.3V 4M-BIT SERIAL FLASH MEMORY WITH 4KB SECTORS AND DUAL I/O SPI WSON8-6x5; Manufacturer: Winbond; Manufacturer Part Number: W25X40CLZPIG; Distributor Link: https://www.mouser.de/ProductDetail/Winbond/W25X40CLZPIG?qs=qSfuJ%252Bfl%2Fd6WKc63uIR%252BcA%3D%3D
footprint WSON-8-6x5mm
pins: 1 ~{CS} (in), 2 DO_IO1 (io), 3 ~{WP} (io), 4 GND (power), 5 DI_IO0 (io), 6 CLK (in), 7 ~{HOLD} (io), 8 VCC (power), 9 EP (power)

## WCS1700_1
designator U?, comment WCS1700
Hall Effect Base Linear Current Sensor
footprint WCS1700_THT
pins: 1 VDD (power), 2 GND (power), 3 VOUT (out), 4 NC, 5 NC

## WE-CNSW_0805
designator CM?
Common Mode Choke Wurth CNSW 0805; Manufacturer: Wurth Elektronik; Manufacturer Part Number: *
footprint WE-CNSW_0805
pins: 1, 2, 3, 4

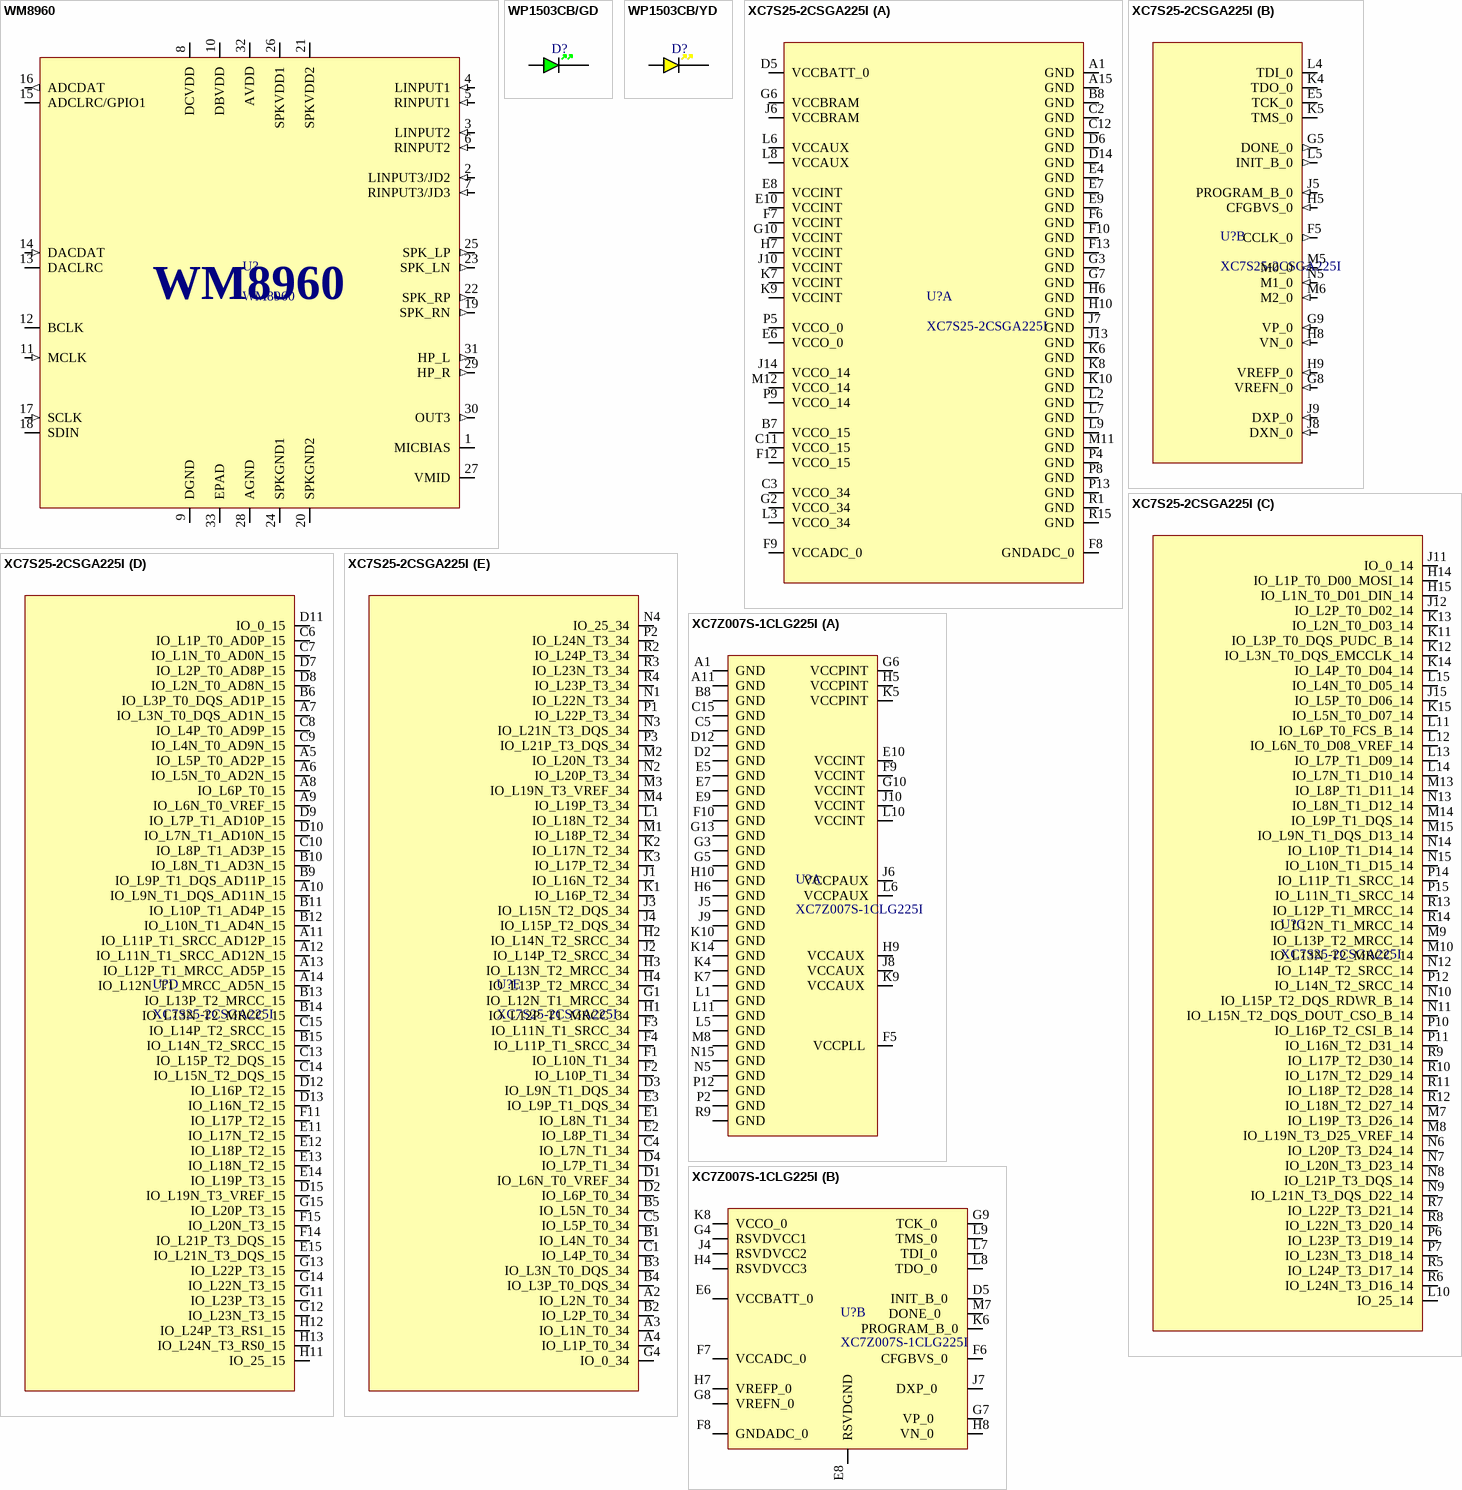
[diagram p34: symbols WM8960 to XC7Z007S-1CLG225I]

## WM8960
designator U?
Stereo CODEC with 1W Stereo Class D Speaker Drivers and / Headphone Drivers for Portable Audio Applications; Manufacturer: Wolfson; Manufacturer Part Number: WM8960CGEFL/RV
footprint QFN32-5x5-0.5
pins: 1 MICBIAS (power), 2 LINPUT3/JD2 (in), 3 LINPUT2 (in), 4 LINPUT1 (in), 5 RINPUT1 (in), 6 RINPUT2 (in), 7 RINPUT3/JD3 (in), 8 DCVDD (power), 9 DGND (power), 10 DBVDD (power), 11 MCLK (in), 12 BCLK (io), 13 DACLRC (io), 14 DACDAT (in), 15 ADCLRC/GPIO1 (io), 16 ADCDAT (out), 17 SCLK (in), 18 SDIN (io), 19 SPK_RN (out), 20 SPKGND2 (power), 21 SPKVDD2 (power), 22 SPK_RP (out), 23 SPK_LN (out), 24 SPKGND1 (power), 25 SPK_LP (out), 26 SPKVDD1 (power), 27 VMID (power), 28 AGND (power), 29 HP_R (out), 30 OUT3 (out), 31 HP_L (out), 32 AVDD (power), 33 EPAD (power)

## WP1503CB/GD
designator D?  (value not drawn)
LED Circuit Board Indicators Green Diffused 568nm; Manufacturer: Kingbright; Manufacturer Part Number: WP1503CB/GD; Distributor Link: https://www.mouser.de/ProductDetail/Kingbright/WP1503CB-GD?qs=58z0TXQGVST0%2FH9DQayy5g%3D%3D
footprint WP1503CB
pins: A, K

## WP1503CB/YD
designator D?  (value not drawn)
LED Circuit Board Indicators Yellow Diffused 588nm; Manufacturer: Kingbright; Manufacturer Part Number: WP1503CB/YD; Distributor Link: https://www.mouser.de/ProductDetail/Kingbright/WP1503CB-YD?qs=58z0TXQGVSTfyR7OMjpk3A%3D%3D
footprint WP1503CB
pins: A, K

## XC7S25-2CSGA225I
designator U?
Field-Programmable Gate Array FPGA Spartan-7 Series CSGA-225 Speed Grade 2 Industrial Temperature Range; Manufacturer: Xilinx; Manufacturer Part Number: XC7S25-2CSGA225I; Distributor Link: https://www.lcsc.com/product-detail/Programmable-Logic-Device-CPLDs-FPGAs_XILINX-XC7S25-2CSGA225I_C1521711.html; LCSC: C1521711
footprint CSGA225 (BGA, 225-Leads, Body 13.00x13.00mmx1.40mm, Pitch 0.80mm)
part A pins: A1 GND (power), A15 GND (power), B7 VCCO_15 (power), B8 GND (power), C2 GND (power), C3 VCCO_34 (power), C11 VCCO_15 (power), C12 GND (power), D5 VCCBATT_0 (power), D6 GND (power), D14 GND (power), E4 GND (power), E6 VCCO_0 (power), E7 GND (power), E8 VCCINT (power), E9 GND (power), E10 VCCINT (power), F6 GND (power), F7 VCCINT (power), F8 GNDADC_0 (power), F9 VCCADC_0 (power), F10 GND (power), F12 VCCO_15 (power), F13 GND (power), G2 VCCO_34 (power), G3 GND (power), G6 VCCBRAM (power), G7 GND (power), G10 VCCINT (power), H6 GND (power), H7 VCCINT (power), H10 GND (power), J6 VCCBRAM (power), J7 GND (power), J10 VCCINT (power), J13 GND (power), J14 VCCO_14 (power), K6 GND (power), K7 VCCINT (power), K8 GND (power), K9 VCCINT (power), K10 GND (power), L2 GND (power), L3 VCCO_34 (power), L6 VCCAUX (power), L7 GND (power), L8 VCCAUX (power), L9 GND (power), M11 GND (power), M12 VCCO_14 (power), P4 GND (power), P5 VCCO_0 (power), P8 GND (power), P9 VCCO_14 (power), P13 GND (power), R1 GND (power), R15 GND (power)
part B pins: E5 TCK_0 (io), F5 CCLK_0 (out), G5 DONE_0 (out), G8 VREFN_0 (in), G9 VP_0 (in), H5 CFGBVS_0 (in), H8 VN_0 (in), H9 VREFP_0 (in), J5 PROGRAM_B_0 (in), J8 DXN_0 (in), J9 DXP_0 (in), K4 TDO_0 (io), K5 TMS_0 (io), L4 TDI_0 (io), L5 INIT_B_0 (out), M5 M0_0 (in), M6 M2_0 (in), N5 M1_0 (in)
part C pins: H14 IO_L1P_T0_D00_MOSI_14 (io), H15 IO_L1N_T0_D01_DIN_14 (io), J11 IO_0_14 (io), J12 IO_L2P_T0_D02_14 (io), J15 IO_L5P_T0_D06_14 (io), K11 IO_L3P_T0_DQS_PUDC_B_14 (io), K12 IO_L3N_T0_DQS_EMCCLK_14 (io), K13 IO_L2N_T0_D03_14 (io), K14 IO_L4P_T0_D04_14 (io), K15 IO_L5N_T0_D07_14 (io), L10 IO_25_14 (io), L11 IO_L6P_T0_FCS_B_14 (io), L12 IO_L6N_T0_D08_VREF_14 (io), L13 IO_L7P_T1_D09_14 (io), L14 IO_L7N_T1_D10_14 (io), L15 IO_L4N_T0_D05_14 (io), M7 IO_L19P_T3_D26_14 (io), M8 IO_L19N_T3_D25_VREF_14 (io), M9 IO_L13P_T2_MRCC_14 (io), M10 IO_L13N_T2_MRCC_14 (io), M13 IO_L8P_T1_D11_14 (io), M14 IO_L9P_T1_DQS_14 (io), M15 IO_L9N_T1_DQS_D13_14 (io), N6 IO_L20P_T3_D24_14 (io), N7 IO_L20N_T3_D23_14 (io), N8 IO_L21P_T3_DQS_14 (io), N9 IO_L21N_T3_DQS_D22_14 (io), N10 IO_L15P_T2_DQS_RDWR_B_14 (io), N11 IO_L15N_T2_DQS_DOUT_CSO_B_14 (io), N12 IO_L14P_T2_SRCC_14 (io), N13 IO_L8N_T1_D12_14 (io), N14 IO_L10P_T1_D14_14 (io), N15 IO_L10N_T1_D15_14 (io), P6 IO_L23P_T3_D19_14 (io), P7 IO_L23N_T3_D18_14 (io), P10 IO_L16P_T2_CSI_B_14 (io), P11 IO_L16N_T2_D31_14 (io), P12 IO_L14N_T2_SRCC_14 (io), P14 IO_L11P_T1_SRCC_14 (io), P15 IO_L11N_T1_SRCC_14 (io), R5 IO_L24P_T3_D17_14 (io), R6 IO_L24N_T3_D16_14 (io), R7 IO_L22P_T3_D21_14 (io), R8 IO_L22N_T3_D20_14 (io), R9 IO_L17P_T2_D30_14 (io), R10 IO_L17N_T2_D29_14 (io), R11 IO_L18P_T2_D28_14 (io), R12 IO_L18N_T2_D27_14 (io), R13 IO_L12P_T1_MRCC_14 (io), R14 IO_L12N_T1_MRCC_14 (io)
part D pins: A5 IO_L5P_T0_AD2P_15 (io), A6 IO_L5N_T0_AD2N_15 (io), A7 IO_L3N_T0_DQS_AD1N_15 (io), A8 IO_L6P_T0_15 (io), A9 IO_L6N_T0_VREF_15 (io), A10 IO_L9N_T1_DQS_AD11N_15 (io), A11 IO_L11P_T1_SRCC_AD12P_15 (io), A12 IO_L11N_T1_SRCC_AD12N_15 (io), A13 IO_L12P_T1_MRCC_AD5P_15 (io), A14 IO_L12N_T1_MRCC_AD5N_15 (io), B6 IO_L3P_T0_DQS_AD1P_15 (io), B9 IO_L9P_T1_DQS_AD11P_15 (io), B10 IO_L8N_T1_AD3N_15 (io), B11 IO_L10P_T1_AD4P_15 (io), B12 IO_L10N_T1_AD4N_15 (io), B13 IO_L13P_T2_MRCC_15 (io), B14 IO_L13N_T2_MRCC_15 (io), B15 IO_L14N_T2_SRCC_15 (io), C6 IO_L1P_T0_AD0P_15 (io), C7 IO_L1N_T0_AD0N_15 (io), C8 IO_L4P_T0_AD9P_15 (io), C9 IO_L4N_T0_AD9N_15 (io), C10 IO_L8P_T1_AD3P_15 (io), C13 IO_L15P_T2_DQS_15 (io), C14 IO_L15N_T2_DQS_15 (io), C15 IO_L14P_T2_SRCC_15 (io), D7 IO_L2P_T0_AD8P_15 (io), D8 IO_L2N_T0_AD8N_15 (io), D9 IO_L7P_T1_AD10P_15 (io), D10 IO_L7N_T1_AD10N_15 (io), D11 IO_0_15 (io), D12 IO_L16P_T2_15 (io), D13 IO_L16N_T2_15 (io), D15 IO_L19N_T3_VREF_15 (io), E11 IO_L17N_T2_15 (io), E12 IO_L18P_T2_15 (io), E13 IO_L18N_T2_15 (io), E14 IO_L19P_T3_15 (io), E15 IO_L21N_T3_DQS_15 (io), F11 IO_L17P_T2_15 (io), F14 IO_L21P_T3_DQS_15 (io), F15 IO_L20N_T3_15 (io), G11 IO_L23P_T3_15 (io), G12 IO_L23N_T3_15 (io), G13 IO_L22P_T3_15 (io), G14 IO_L22N_T3_15 (io), G15 IO_L20P_T3_15 (io), H11 IO_25_15 (io), H12 IO_L24P_T3_RS1_15 (io), H13 IO_L24N_T3_RS0_15 (io)
part E pins: A2 IO_L2N_T0_34 (io), A3 IO_L1N_T0_34 (io), A4 IO_L1P_T0_34 (io), B1 IO_L4N_T0_34 (io), B2 IO_L2P_T0_34 (io), B3 IO_L3N_T0_DQS_34 (io), B4 IO_L3P_T0_DQS_34 (io), B5 IO_L5N_T0_34 (io), C1 IO_L4P_T0_34 (io), C4 IO_L7N_T1_34 (io), C5 IO_L5P_T0_34 (io), D1 IO_L6N_T0_VREF_34 (io), D2 IO_L6P_T0_34 (io), D3 IO_L9N_T1_DQS_34 (io), D4 IO_L7P_T1_34 (io), E1 IO_L8N_T1_34 (io), E2 IO_L8P_T1_34 (io), E3 IO_L9P_T1_DQS_34 (io), F1 IO_L10N_T1_34 (io), F2 IO_L10P_T1_34 (io), F3 IO_L11N_T1_SRCC_34 (io), F4 IO_L11P_T1_SRCC_34 (io), G1 IO_L12N_T1_MRCC_34 (io), G4 IO_0_34 (io), H1 IO_L12P_T1_MRCC_34 (io), H2 IO_L14N_T2_SRCC_34 (io), H3 IO_L13N_T2_MRCC_34 (io), H4 IO_L13P_T2_MRCC_34 (io), J1 IO_L16N_T2_34 (io), J2 IO_L14P_T2_SRCC_34 (io), J3 IO_L15N_T2_DQS_34 (io), J4 IO_L15P_T2_DQS_34 (io), K1 IO_L16P_T2_34 (io), K2 IO_L17N_T2_34 (io), K3 IO_L17P_T2_34 (io), L1 IO_L18N_T2_34 (io), M1 IO_L18P_T2_34 (io), M2 IO_L20N_T3_34 (io), M3 IO_L19N_T3_VREF_34 (io), M4 IO_L19P_T3_34 (io), N1 IO_L22N_T3_34 (io), N2 IO_L20P_T3_34 (io), N3 IO_L21N_T3_DQS_34 (io), N4 IO_25_34 (io), P1 IO_L22P_T3_34 (io), P2 IO_L24N_T3_34 (io), P3 IO_L21P_T3_DQS_34 (io), R2 IO_L24P_T3_34 (io), R3 IO_L23N_T3_34 (io), R4 IO_L23P_T3_34 (io)

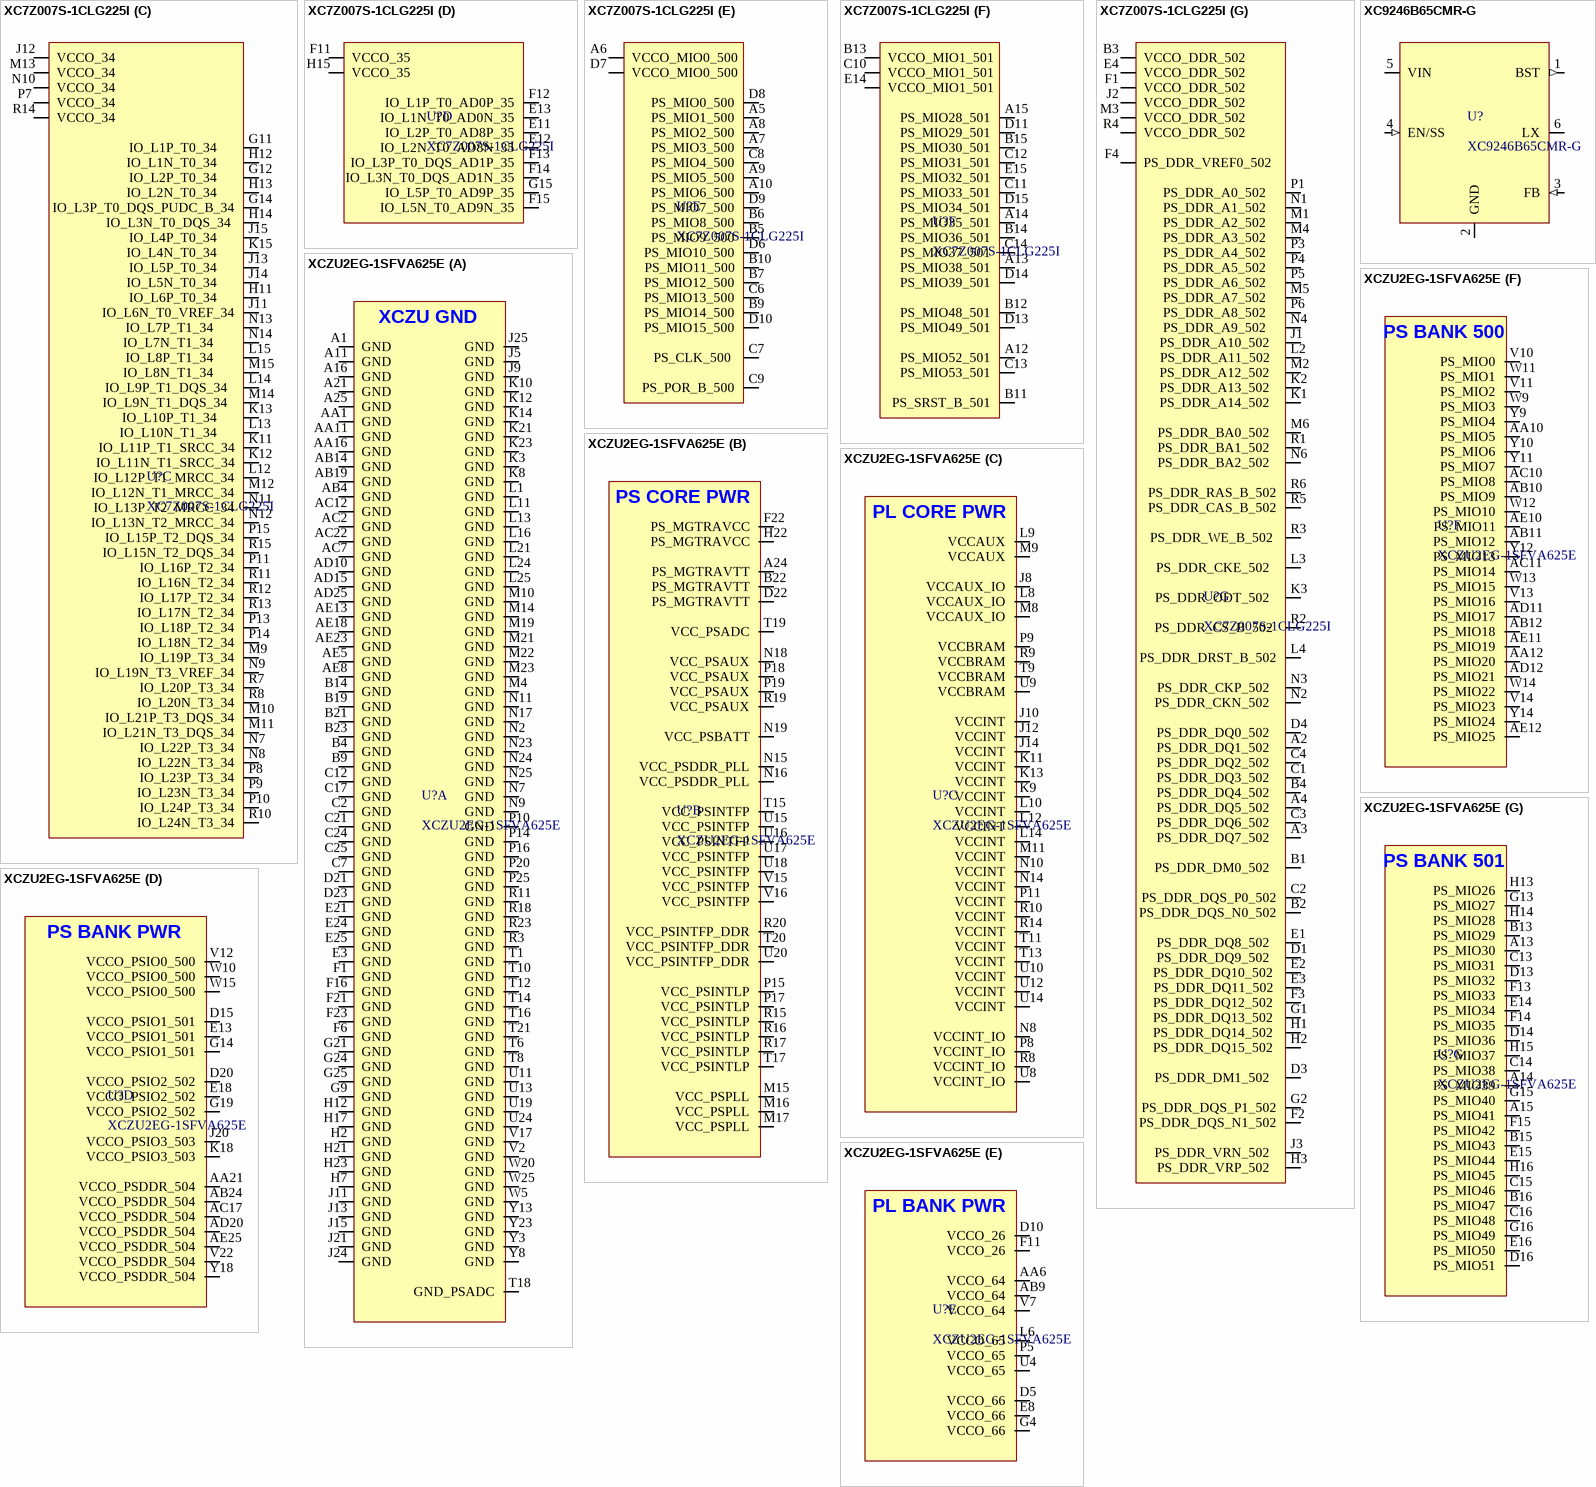
[diagram p35: symbols XC7Z007S-1CLG225I to XCZU2EG-1SFVA625E]

## XC7Z007S-1CLG225I
designator U?
Xilinx FPGA SoC Zynq 7-Series XC7Z007S CLG255 Package Industrial Temperature Grade; Manufacturer: Xilinx; Manufacturer Part Number: XC7Z007S-1CLG225I
footprint CLG225 (BGA, 225-Leads, Body 13.00x13.00mmx1.50mm, Pitch 0.80mm)
part A pins: A1    GND    , A11   GND    , B8    GND    , C5    GND    , C15   GND    , D2    GND    , D12   GND    , E5    GND    , E7    GND    , E9    GND    , E10   VCCINT , F5    VCCPLL , F9    VCCINT , F10   GND    , G3    GND    , G5    GND    , G6    VCCPINT, G10   VCCINT , G13   GND    , H5    VCCPINT, H6    GND    , H9    VCCAUX , H10   GND    , J5    GND    , J6    VCCPAUX, J8    VCCAUX , J9    GND    , J10   VCCINT , K4    GND    , K5    VCCPINT, K7    GND    , K9    VCCAUX , K10   GND    , K14   GND    , L1    GND    , L5    GND    , L6    VCCPAUX, L10   VCCINT , L11   GND    , M8    GND    , N5    GND    , N15   GND    , P2    GND    , P12   GND    , R9    GND    
part B pins: D5    INIT_B_0   , E6    VCCBATT_0  , E8    RSVDGND    , F6    CFGBVS_0   , F7    VCCADC_0   , F8    GNDADC_0   , G4    RSVDVCC1   , G7    VP_0       , G8    VREFN_0    , G9    TCK_0      , H4    RSVDVCC3   , H7    VREFP_0    , H8    VN_0       , J4    RSVDVCC2   , J7    DXP_0      , K6    PROGRAM_B_0, K8    VCCO_0, L7    TDI_0      , L8    TDO_0      , L9    TMS_0      , M7    DONE_0     
part C pins: G11   IO_L1P_T0_34     , G12   IO_L2P_T0_34     , G14   IO_L3P_T0_DQS_PUDC_B_34, H11   IO_L6P_T0_34     , H12   IO_L1N_T0_34     , H13   IO_L2N_T0_34     , H14   IO_L3N_T0_DQS_34 , J11   IO_L6N_T0_VREF_34, J12   VCCO_34, J13   IO_L5P_T0_34     , J14   IO_L5N_T0_34     , J15   IO_L4P_T0_34     , K11   IO_L11P_T1_SRCC_34, K12   IO_L11N_T1_SRCC_34, K13   IO_L10P_T1_34     , K15   IO_L4N_T0_34     , L12   IO_L12P_T1_MRCC_34, L13   IO_L10N_T1_34     , L14   IO_L9P_T1_DQS_34  , L15   IO_L8P_T1_34      , M9    IO_L19P_T3_34, M10   IO_L21P_T3_DQS_34, M11   IO_L21N_T3_DQS_34, M12   IO_L12N_T1_MRCC_34, M13   VCCO_34, M14   IO_L9N_T1_DQS_34  , M15   IO_L8N_T1_34      , N7    IO_L22P_T3_34, N8    IO_L22N_T3_34, N9    IO_L19N_T3_VREF_34, N10   VCCO_34, N11   IO_L13P_T2_MRCC_34, N12   IO_L13N_T2_MRCC_34, N13   IO_L7P_T1_34      , N14   IO_L7N_T1_34      , P7    VCCO_34, P8    IO_L23P_T3_34, P9    IO_L23N_T3_34, P10   IO_L24P_T3_34, P11   IO_L16P_T2_34, P13   IO_L18P_T2_34, P14   IO_L18N_T2_34, P15   IO_L15P_T2_DQS_34, R7    IO_L20P_T3_34, R8    IO_L20N_T3_34, R10   IO_L24N_T3_34, R11   IO_L16N_T2_34, R12   IO_L17P_T2_34, R13   IO_L17N_T2_34, R14   VCCO_34, R15   IO_L15N_T2_DQS_34
part D pins: E11   IO_L2P_T0_AD8P_35, E12   IO_L2N_T0_AD8N_35, E13   IO_L1N_T0_AD0N_35, F11   VCCO_35, F12   IO_L1P_T0_AD0P_35, F13   IO_L3P_T0_DQS_AD1P_35, F14   IO_L3N_T0_DQS_AD1N_35, F15   IO_L5N_T0_AD9N_35, G15   IO_L5P_T0_AD9P_35, H15   VCCO_35
part E pins: A5    PS_MIO1_500, A6    VCCO_MIO0_500, A7    PS_MIO3_500, A8    PS_MIO2_500, A9    PS_MIO5_500, A10   PS_MIO6_500, B5    PS_MIO9_500, B6    PS_MIO8_500, B7    PS_MIO12_500, B9    PS_MIO14_500, B10   PS_MIO11_500, C6    PS_MIO13_500, C7    PS_CLK_500 , C8    PS_MIO4_500, C9    PS_POR_B_500, D6    PS_MIO10_500, D7    VCCO_MIO0_500, D8    PS_MIO0_500, D9    PS_MIO7_500, D10   PS_MIO15_500
part F pins: A12   PS_MIO52_501, A13   PS_MIO38_501, A14   PS_MIO35_501, A15   PS_MIO28_501, B11   PS_SRST_B_501, B12   PS_MIO48_501, B13   VCCO_MIO1_501, B14   PS_MIO36_501, B15   PS_MIO30_501, C10   VCCO_MIO1_501, C11   PS_MIO33_501, C12   PS_MIO31_501, C13   PS_MIO53_501, C14   PS_MIO37_501, D11   PS_MIO29_501, D13   PS_MIO49_501, D14   PS_MIO39_501, D15   PS_MIO34_501, E14   VCCO_MIO1_501, E15   PS_MIO32_501
part G pins: A2    PS_DDR_DQ1_502  , A3    PS_DDR_DQ7_502  , A4    PS_DDR_DQ5_502  , B1    PS_DDR_DM0_502  , B2    PS_DDR_DQS_N0_502, B3    VCCO_DDR_502, B4    PS_DDR_DQ4_502  , C1    PS_DDR_DQ3_502  , C2    PS_DDR_DQS_P0_502, C3    PS_DDR_DQ6_502  , C4    PS_DDR_DQ2_502  , D1    PS_DDR_DQ9_502  , D3    PS_DDR_DM1_502  , D4    PS_DDR_DQ0_502  , E1    PS_DDR_DQ8_502  , E2    PS_DDR_DQ10_502 , E3    PS_DDR_DQ11_502 , E4    VCCO_DDR_502, F1    VCCO_DDR_502, F2    PS_DDR_DQS_N1_502, F3    PS_DDR_DQ12_502 , F4    PS_DDR_VREF0_502, G1    PS_DDR_DQ13_502 , G2    PS_DDR_DQS_P1_502, H1    PS_DDR_DQ14_502 , H2    PS_DDR_DQ15_502 , H3    PS_DDR_VRP_502  , J1    PS_DDR_A10_502  , J2    VCCO_DDR_502, J3    PS_DDR_VRN_502  , K1    PS_DDR_A14_502  , K2    PS_DDR_A13_502  , K3    PS_DDR_ODT_502  , L2    PS_DDR_A11_502  , L3    PS_DDR_CKE_502  , L4    PS_DDR_DRST_B_502, M1    PS_DDR_A2_502   , M2    PS_DDR_A12_502  , M3    VCCO_DDR_502, M4    PS_DDR_A3_502   , M5    PS_DDR_A7_502   , M6    PS_DDR_BA0_502  , N1    PS_DDR_A1_502   , N2    PS_DDR_CKN_502  , N3    PS_DDR_CKP_502  , N4    PS_DDR_A9_502   , N6    PS_DDR_BA2_502  , P1    PS_DDR_A0_502   , P3    PS_DDR_A4_502   , P4    PS_DDR_A5_502   , P5    PS_DDR_A6_502   , P6    PS_DDR_A8_502   , R1    PS_DDR_BA1_502  , R2    PS_DDR_CS_B_502 , R3    PS_DDR_WE_B_502 , R4    VCCO_DDR_502, R5    PS_DDR_CAS_B_502, R6    PS_DDR_RAS_B_502

## XC9246B65CMR-G
designator U?
16V 1A 1.2MHz Step-Down Converter; Manufacturer: Torex; Manufacturer Part Number: XC9246B65CMR-G; Distributor Link: https://eu.mouser.com/ProductDetail/Torex-Semiconductor/XC9246B65CMR-G?qs=AsjdqWjXhJ9wr0OrYrSknw%3D%3D; LCSC: C2468818
footprint SOT-23-6
pins: 1 BST (out), 2 GND (power), 3 FB (in), 4 EN/SS (in), 5 VIN (power), 6 LX (power)

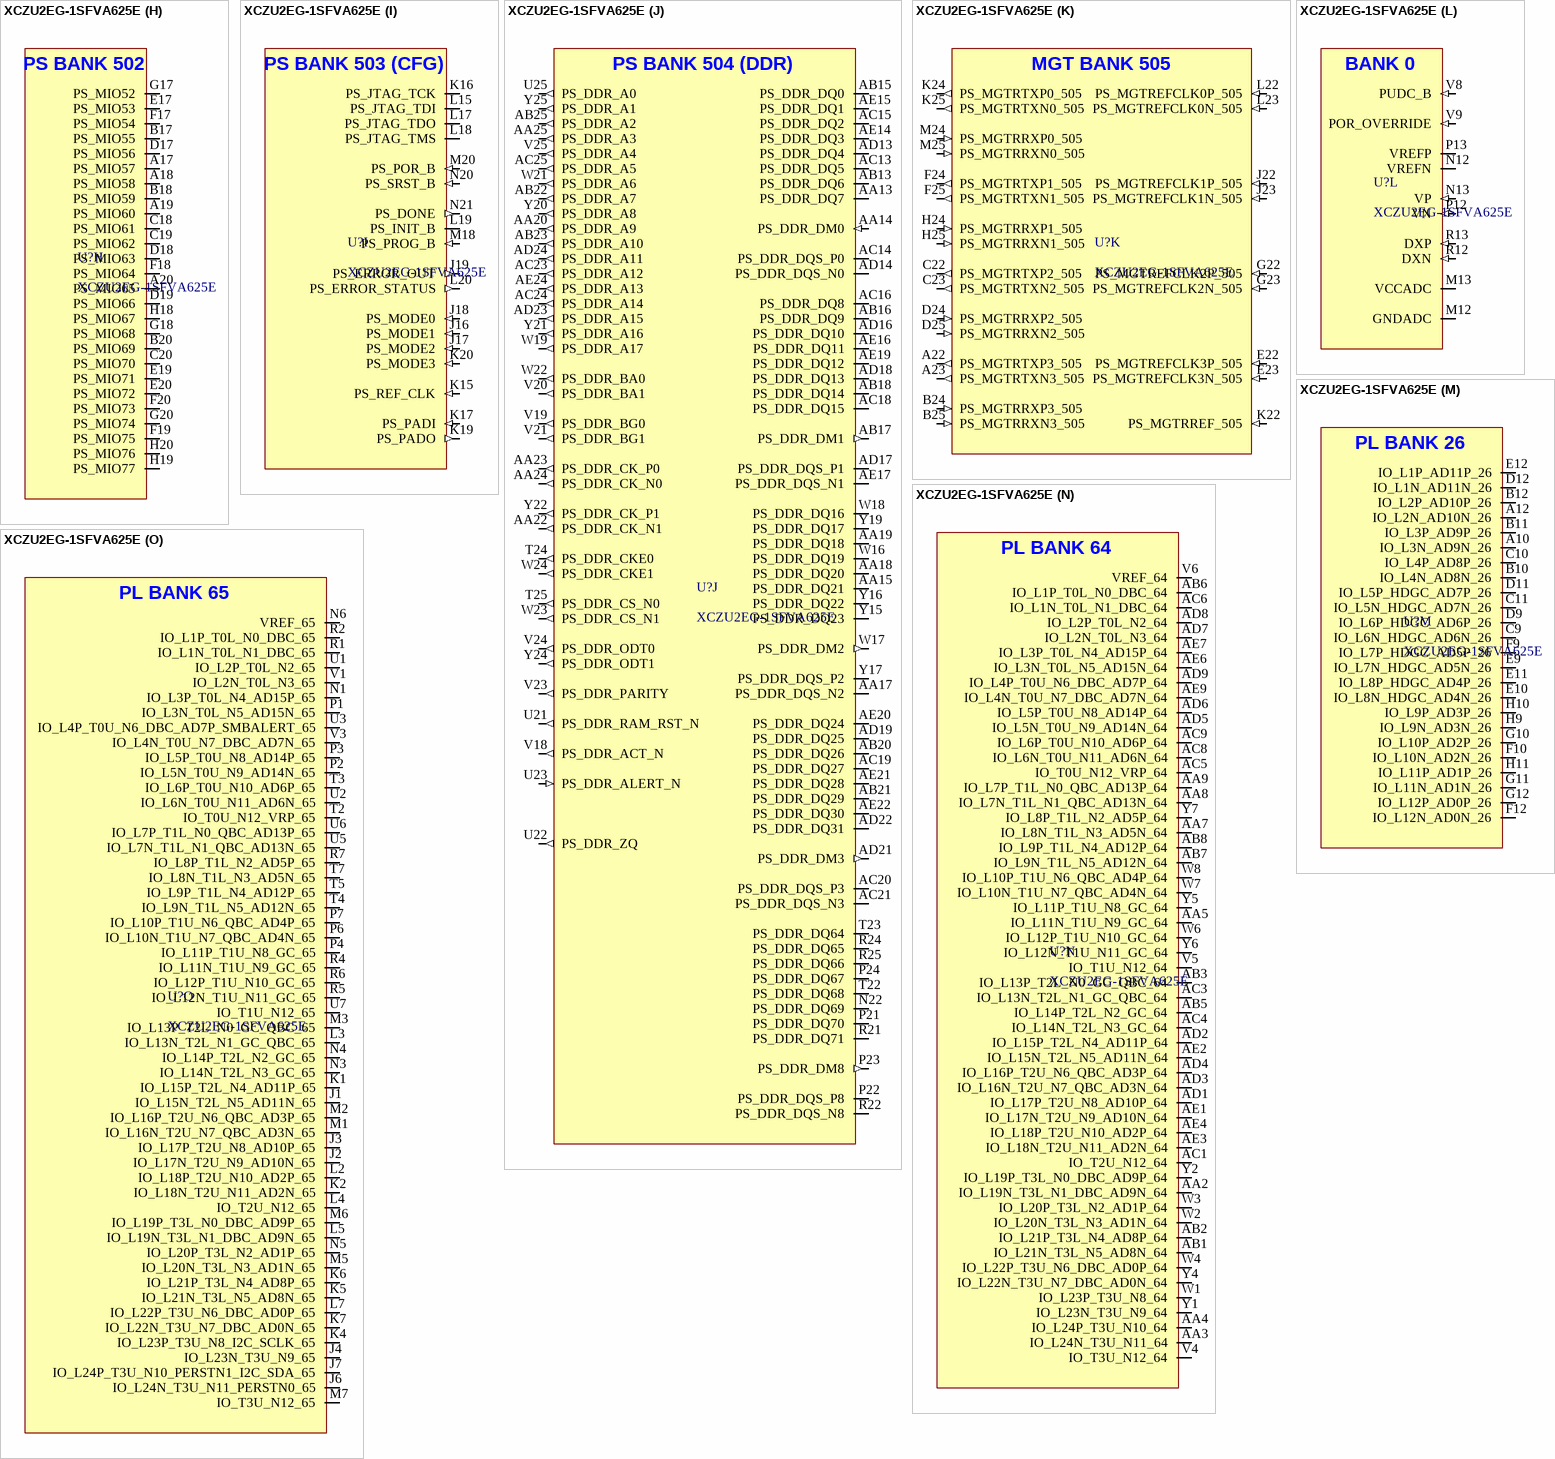
[diagram p36: symbol XCZU2EG-1SFVA625E]

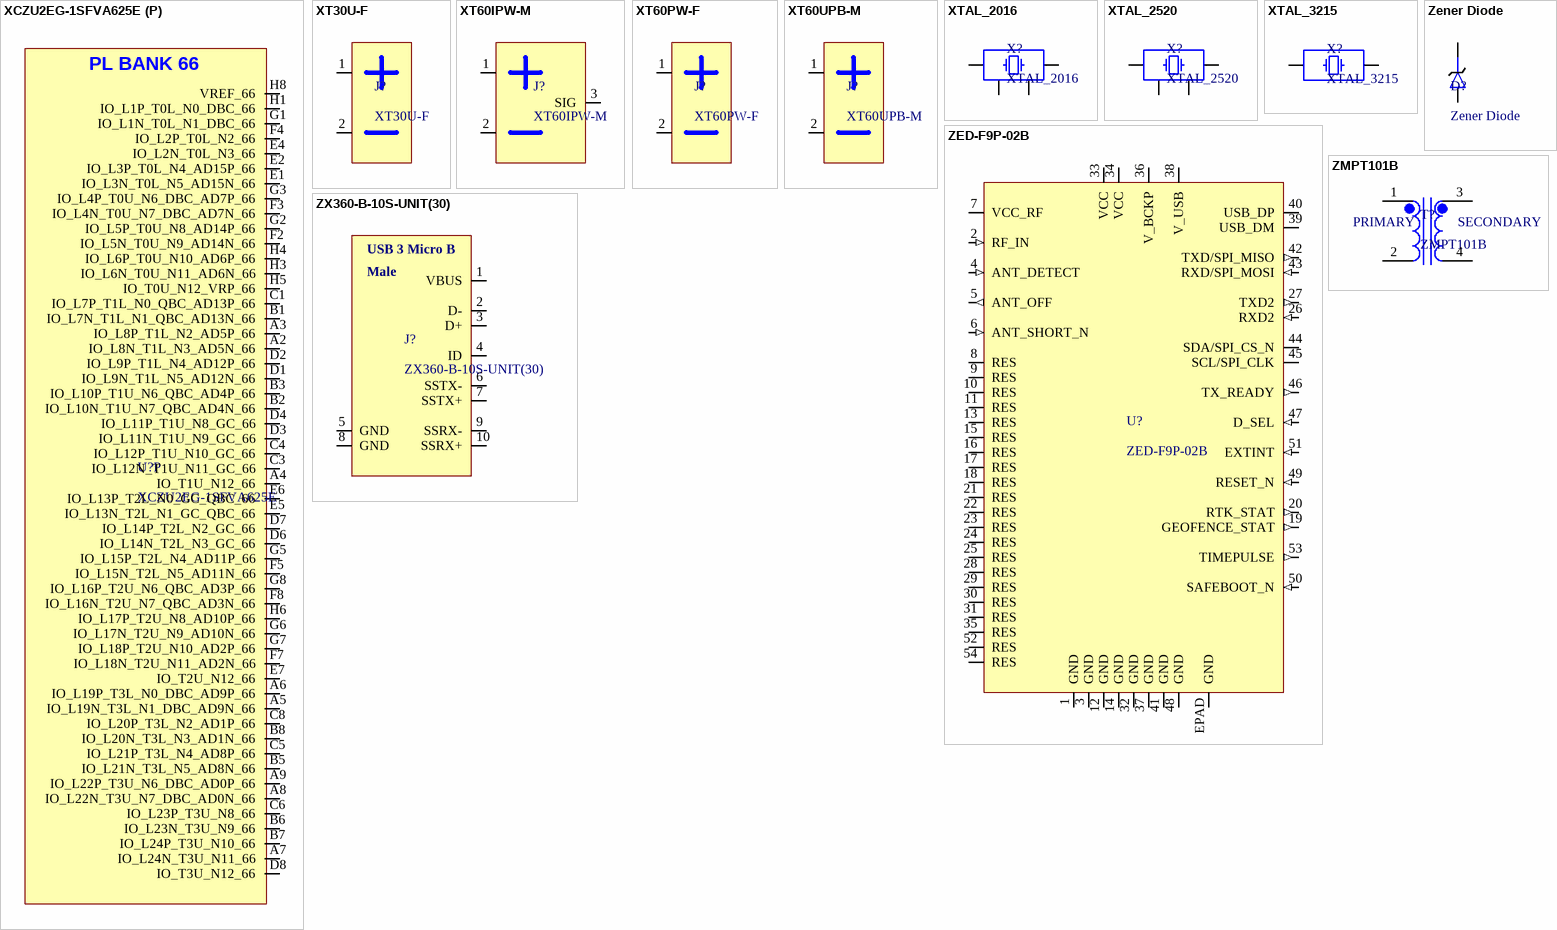
[diagram p37: symbols XCZU2EG-1SFVA625E to ZX360-B-10S-UNIT(30)]